# Altium schematic symbol library MCU_Microchip_ATmega.SchLib: 440 symbols (part 3 of 9)
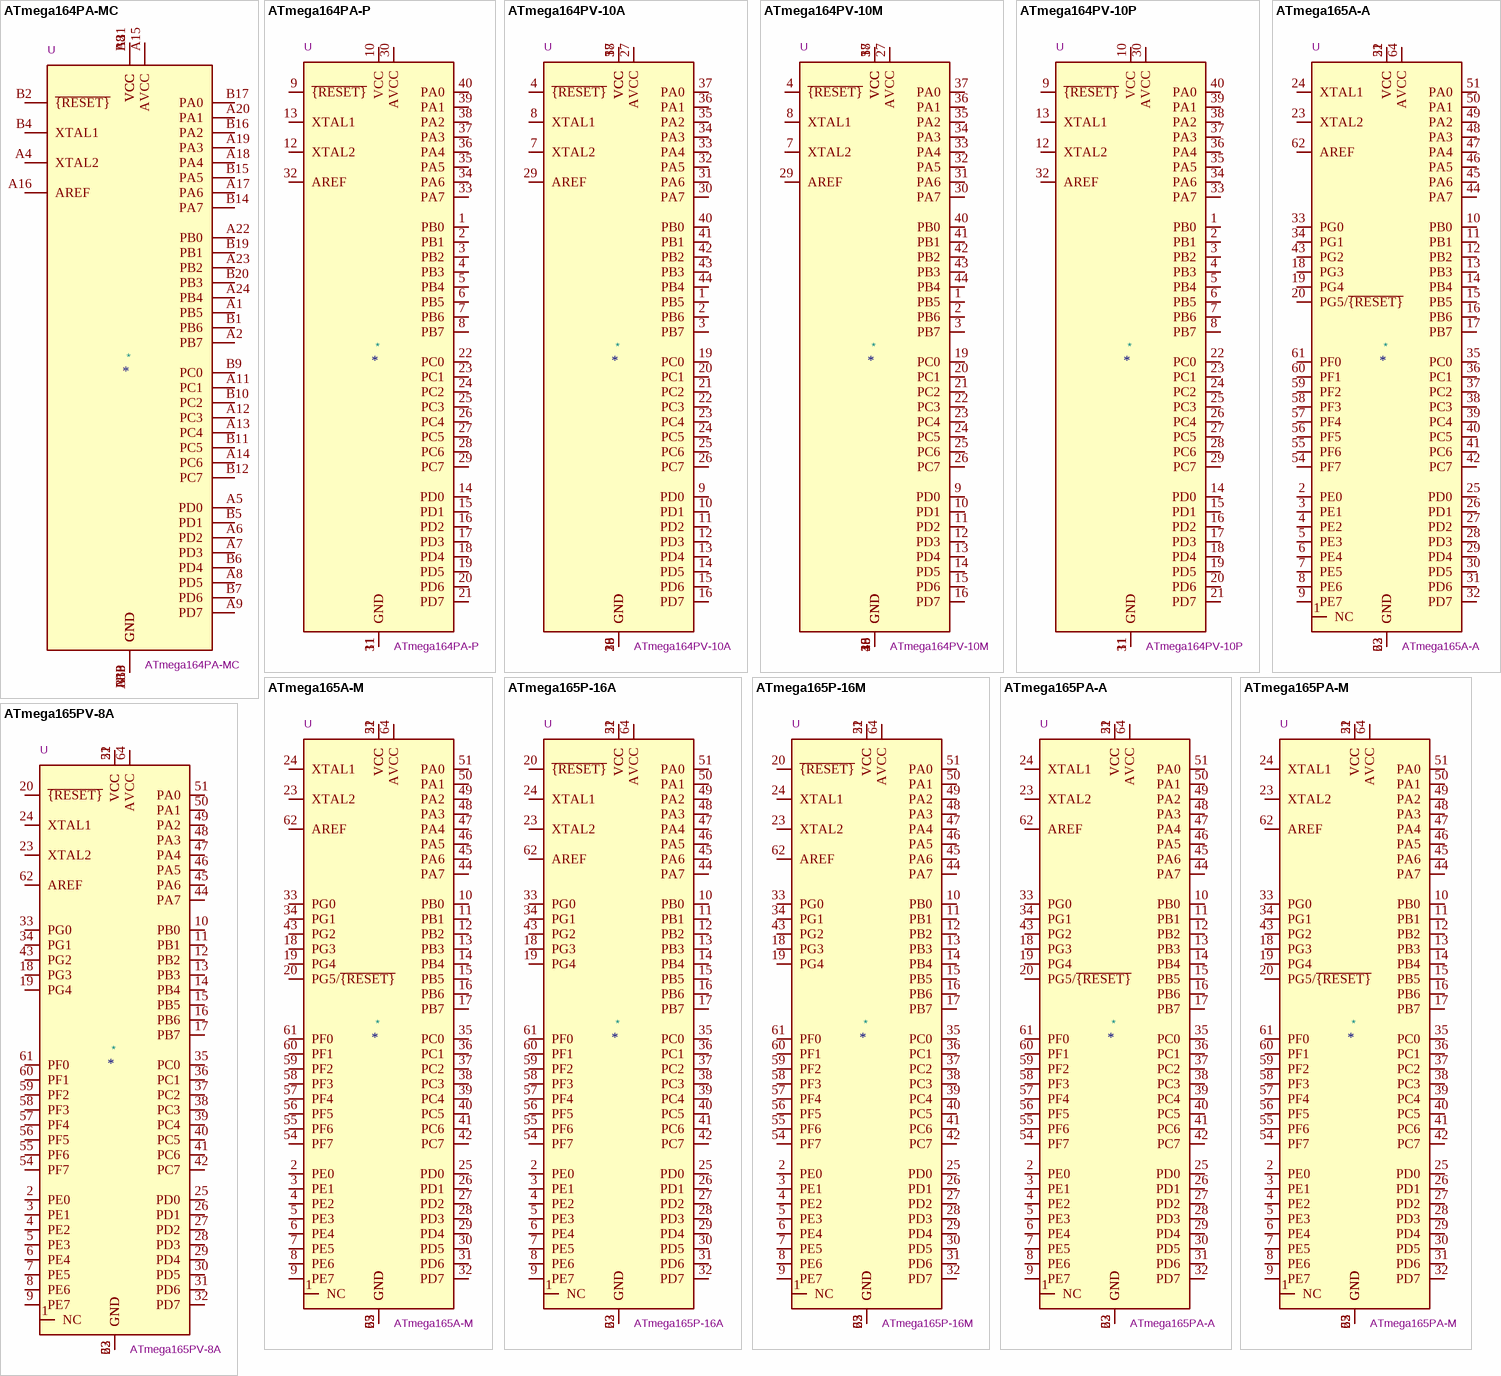
[diagram p42: symbols ATmega164PA-MC to ATmega165PV-8A]

## ATmega164PV-10A
designator *  value ATmega164PV-10A  Reference: U
10MHz, 16kB Flash, 1kB SRAM, 512B EEPROM, JTAG, TQFP-44; ki_keywords: AVR 8bit Microcontroller MegaAVR PicoPower; ki_fp_filters: TQFP*10x10mm*P0.8mm*; Footprint: Package_QFP:TQFP-44_10x10mm_P0.8mm; Datasheet: http://ww1.microchip.com/downloads/en/DeviceDoc/Atmel-42742-ATmega164P_Datasheet.pdf; Description_: 10MHz, 16kB Flash, 1kB SRAM, 512B EEPROM, JTAG, TQFP-44
pins: 1 PB5, 2 PB6, 3 PB7, 4 ~{{RESET}}, 5 VCC, 6 GND, 7 XTAL2, 8 XTAL1, 9 PD0, 10 PD1, 11 PD2, 12 PD3, 13 PD4, 14 PD5, 15 PD6, 16 PD7, 17 VCC, 18 GND, 19 PC0, 20 PC1, 21 PC2, 22 PC3, 23 PC4, 24 PC5, 25 PC6, 26 PC7, 27 AVCC, 28 GND, 29 AREF, 30 PA7, 31 PA6, 32 PA5, 33 PA4, 34 PA3, 35 PA2, 36 PA1, 37 PA0, 38 VCC, 39 GND, 40 PB0, 41 PB1, 42 PB2, 43 PB3, 44 PB4

## ATmega164PV-10M
designator *  value ATmega164PV-10M  Reference: U
10MHz, 16kB Flash, 1kB SRAM, 512B EEPROM, JTAG, QFN-44; ki_keywords: AVR 8bit Microcontroller MegaAVR PicoPower; ki_fp_filters: QFN*1EP*7x7mm*P0.5mm*; Footprint: Package_DFN_QFN:QFN-44-1EP_7x7mm_P0.5mm_EP5.2x5.2mm; Datasheet: http://ww1.microchip.com/downloads/en/DeviceDoc/Atmel-42742-ATmega164P_Datasheet.pdf; Description_: 10MHz, 16kB Flash, 1kB SRAM, 512B EEPROM, JTAG, QFN-44
pins: 1 PB5, 2 PB6, 3 PB7, 4 ~{{RESET}}, 5 VCC, 6 GND, 7 XTAL2, 8 XTAL1, 9 PD0, 10 PD1, 11 PD2, 12 PD3, 13 PD4, 14 PD5, 15 PD6, 16 PD7, 17 VCC, 18 GND, 19 PC0, 20 PC1, 21 PC2, 22 PC3, 23 PC4, 24 PC5, 25 PC6, 26 PC7, 27 AVCC, 28 GND, 29 AREF, 30 PA7, 31 PA6, 32 PA5, 33 PA4, 34 PA3, 35 PA2, 36 PA1, 37 PA0, 38 VCC, 39 GND, 40 PB0, 41 PB1, 42 PB2, 43 PB3, 44 PB4, 45 GND

## ATmega164PV-10P
designator *  value ATmega164PV-10P  Reference: U
10MHz, 16kB Flash, 1kB SRAM, 512B EEPROM, JTAG, DIP-40; ki_keywords: AVR 8bit Microcontroller MegaAVR PicoPower; ki_fp_filters: DIP*W15.24mm*; Footprint: Package_DIP:DIP-40_W15.24mm; Datasheet: http://ww1.microchip.com/downloads/en/DeviceDoc/Atmel-42742-ATmega164P_Datasheet.pdf; Description_: 10MHz, 16kB Flash, 1kB SRAM, 512B EEPROM, JTAG, DIP-40
pins: 1 PB0, 2 PB1, 3 PB2, 4 PB3, 5 PB4, 6 PB5, 7 PB6, 8 PB7, 9 ~{{RESET}}, 10 VCC, 11 GND, 12 XTAL2, 13 XTAL1, 14 PD0, 15 PD1, 16 PD2, 17 PD3, 18 PD4, 19 PD5, 20 PD6, 21 PD7, 22 PC0, 23 PC1, 24 PC2, 25 PC3, 26 PC4, 27 PC5, 28 PC6, 29 PC7, 30 AVCC, 31 GND, 32 AREF, 33 PA7, 34 PA6, 35 PA5, 36 PA4, 37 PA3, 38 PA2, 39 PA1, 40 PA0

## ATmega165A-A
designator *  value ATmega165A-A  Reference: U
16MHz, 16kB Flash, 1kB SRAM, 512B EEPROM, TQFP-64; ki_keywords: AVR 8bit Microcontroller MegaAVR PicoPower; ki_fp_filters: TQFP*14x14mm*P0.8mm*; Footprint: Package_QFP:TQFP-64_14x14mm_P0.8mm; Datasheet: http://ww1.microchip.com/downloads/en/DeviceDoc/atmel-8285-8-bit-avr-microcontroller-atmega165a_pa_325a_pa_3250a_pa_645a_p_6450a_p_datasheet.pdf; Description_: 16MHz, 16kB Flash, 1kB SRAM, 512B EEPROM, TQFP-64
pins: 1 NC, 2 PE0, 3 PE1, 4 PE2, 5 PE3, 6 PE4, 7 PE5, 8 PE6, 9 PE7, 10 PB0, 11 PB1, 12 PB2, 13 PB3, 14 PB4, 15 PB5, 16 PB6, 17 PB7, 18 PG3, 19 PG4, 20 PG5/~{{RESET}}, 21 VCC, 22 GND, 23 XTAL2, 24 XTAL1, 25 PD0, 26 PD1, 27 PD2, 28 PD3, 29 PD4, 30 PD5, 31 PD6, 32 PD7, 33 PG0, 34 PG1, 35 PC0, 36 PC1, 37 PC2, 38 PC3, 39 PC4, 40 PC5, 41 PC6, 42 PC7, 43 PG2, 44 PA7, 45 PA6, 46 PA5, 47 PA4, 48 PA3, 49 PA2, 50 PA1, 51 PA0, 52 VCC, 53 GND, 54 PF7, 55 PF6, 56 PF5, 57 PF4, 58 PF3, 59 PF2, 60 PF1, 61 PF0, 62 AREF, 63 GND, 64 AVCC

## ATmega165A-M
designator *  value ATmega165A-M  Reference: U
16MHz, 16kB Flash, 1kB SRAM, 512B EEPROM, QFN-64; ki_keywords: AVR 8bit Microcontroller MegaAVR PicoPower; ki_fp_filters: QFN*1EP*9x9mm*P0.5mm*; Footprint: Package_DFN_QFN:QFN-64-1EP_9x9mm_P0.5mm_EP5.4x5.4mm; Datasheet: http://ww1.microchip.com/downloads/en/DeviceDoc/atmel-8285-8-bit-avr-microcontroller-atmega165a_pa_325a_pa_3250a_pa_645a_p_6450a_p_datasheet.pdf; Description_: 16MHz, 16kB Flash, 1kB SRAM, 512B EEPROM, QFN-64
pins: 1 NC, 2 PE0, 3 PE1, 4 PE2, 5 PE3, 6 PE4, 7 PE5, 8 PE6, 9 PE7, 10 PB0, 11 PB1, 12 PB2, 13 PB3, 14 PB4, 15 PB5, 16 PB6, 17 PB7, 18 PG3, 19 PG4, 20 PG5/~{{RESET}}, 21 VCC, 22 GND, 23 XTAL2, 24 XTAL1, 25 PD0, 26 PD1, 27 PD2, 28 PD3, 29 PD4, 30 PD5, 31 PD6, 32 PD7, 33 PG0, 34 PG1, 35 PC0, 36 PC1, 37 PC2, 38 PC3, 39 PC4, 40 PC5, 41 PC6, 42 PC7, 43 PG2, 44 PA7, 45 PA6, 46 PA5, 47 PA4, 48 PA3, 49 PA2, 50 PA1, 51 PA0, 52 VCC, 53 GND, 54 PF7, 55 PF6, 56 PF5, 57 PF4, 58 PF3, 59 PF2, 60 PF1, 61 PF0, 62 AREF, 63 GND, 64 AVCC, 65 GND

## ATmega165P-16A
designator *  value ATmega165P-16A  Reference: U
16MHz, 16kB Flash, 1kB SRAM, 512B EEPROM, TQFP-64; ki_keywords: AVR 8bit Microcontroller MegaAVR PicoPower; ki_fp_filters: TQFP*14x14mm*P0.8mm*; Footprint: Package_QFP:TQFP-64_14x14mm_P0.8mm; Datasheet: http://ww1.microchip.com/downloads/en/DeviceDoc/doc8019.pdf; Description_: 16MHz, 16kB Flash, 1kB SRAM, 512B EEPROM, TQFP-64
pins: 1 NC, 2 PE0, 3 PE1, 4 PE2, 5 PE3, 6 PE4, 7 PE5, 8 PE6, 9 PE7, 10 PB0, 11 PB1, 12 PB2, 13 PB3, 14 PB4, 15 PB5, 16 PB6, 17 PB7, 18 PG3, 19 PG4, 20 ~{{RESET}}, 21 VCC, 22 GND, 23 XTAL2, 24 XTAL1, 25 PD0, 26 PD1, 27 PD2, 28 PD3, 29 PD4, 30 PD5, 31 PD6, 32 PD7, 33 PG0, 34 PG1, 35 PC0, 36 PC1, 37 PC2, 38 PC3, 39 PC4, 40 PC5, 41 PC6, 42 PC7, 43 PG2, 44 PA7, 45 PA6, 46 PA5, 47 PA4, 48 PA3, 49 PA2, 50 PA1, 51 PA0, 52 VCC, 53 GND, 54 PF7, 55 PF6, 56 PF5, 57 PF4, 58 PF3, 59 PF2, 60 PF1, 61 PF0, 62 AREF, 63 GND, 64 AVCC

## ATmega165P-16M
designator *  value ATmega165P-16M  Reference: U
16MHz, 16kB Flash, 1kB SRAM, 512B EEPROM, QFN-64; ki_keywords: AVR 8bit Microcontroller MegaAVR PicoPower; ki_fp_filters: QFN*1EP*9x9mm*P0.5mm*; Footprint: Package_DFN_QFN:QFN-64-1EP_9x9mm_P0.5mm_EP5.4x5.4mm; Datasheet: http://ww1.microchip.com/downloads/en/DeviceDoc/doc8019.pdf; Description_: 16MHz, 16kB Flash, 1kB SRAM, 512B EEPROM, QFN-64
pins: 1 NC, 2 PE0, 3 PE1, 4 PE2, 5 PE3, 6 PE4, 7 PE5, 8 PE6, 9 PE7, 10 PB0, 11 PB1, 12 PB2, 13 PB3, 14 PB4, 15 PB5, 16 PB6, 17 PB7, 18 PG3, 19 PG4, 20 ~{{RESET}}, 21 VCC, 22 GND, 23 XTAL2, 24 XTAL1, 25 PD0, 26 PD1, 27 PD2, 28 PD3, 29 PD4, 30 PD5, 31 PD6, 32 PD7, 33 PG0, 34 PG1, 35 PC0, 36 PC1, 37 PC2, 38 PC3, 39 PC4, 40 PC5, 41 PC6, 42 PC7, 43 PG2, 44 PA7, 45 PA6, 46 PA5, 47 PA4, 48 PA3, 49 PA2, 50 PA1, 51 PA0, 52 VCC, 53 GND, 54 PF7, 55 PF6, 56 PF5, 57 PF4, 58 PF3, 59 PF2, 60 PF1, 61 PF0, 62 AREF, 63 GND, 64 AVCC, 65 GND

## ATmega165PA-A
designator *  value ATmega165PA-A  Reference: U
16MHz, 16kB Flash, 1kB SRAM, 512B EEPROM, TQFP-64; ki_keywords: AVR 8bit Microcontroller MegaAVR PicoPower; ki_fp_filters: TQFP*14x14mm*P0.8mm*; Footprint: Package_QFP:TQFP-64_14x14mm_P0.8mm; Datasheet: http://ww1.microchip.com/downloads/en/DeviceDoc/atmel-8285-8-bit-avr-microcontroller-atmega165a_pa_325a_pa_3250a_pa_645a_p_6450a_p_datasheet.pdf; Description_: 16MHz, 16kB Flash, 1kB SRAM, 512B EEPROM, TQFP-64
pins: 1 NC, 2 PE0, 3 PE1, 4 PE2, 5 PE3, 6 PE4, 7 PE5, 8 PE6, 9 PE7, 10 PB0, 11 PB1, 12 PB2, 13 PB3, 14 PB4, 15 PB5, 16 PB6, 17 PB7, 18 PG3, 19 PG4, 20 PG5/~{{RESET}}, 21 VCC, 22 GND, 23 XTAL2, 24 XTAL1, 25 PD0, 26 PD1, 27 PD2, 28 PD3, 29 PD4, 30 PD5, 31 PD6, 32 PD7, 33 PG0, 34 PG1, 35 PC0, 36 PC1, 37 PC2, 38 PC3, 39 PC4, 40 PC5, 41 PC6, 42 PC7, 43 PG2, 44 PA7, 45 PA6, 46 PA5, 47 PA4, 48 PA3, 49 PA2, 50 PA1, 51 PA0, 52 VCC, 53 GND, 54 PF7, 55 PF6, 56 PF5, 57 PF4, 58 PF3, 59 PF2, 60 PF1, 61 PF0, 62 AREF, 63 GND, 64 AVCC

## ATmega165PA-M
designator *  value ATmega165PA-M  Reference: U
16MHz, 16kB Flash, 1kB SRAM, 512B EEPROM, QFN-64; ki_keywords: AVR 8bit Microcontroller MegaAVR PicoPower; ki_fp_filters: QFN*1EP*9x9mm*P0.5mm*; Footprint: Package_DFN_QFN:QFN-64-1EP_9x9mm_P0.5mm_EP5.4x5.4mm; Datasheet: http://ww1.microchip.com/downloads/en/DeviceDoc/atmel-8285-8-bit-avr-microcontroller-atmega165a_pa_325a_pa_3250a_pa_645a_p_6450a_p_datasheet.pdf; Description_: 16MHz, 16kB Flash, 1kB SRAM, 512B EEPROM, QFN-64
pins: 1 NC, 2 PE0, 3 PE1, 4 PE2, 5 PE3, 6 PE4, 7 PE5, 8 PE6, 9 PE7, 10 PB0, 11 PB1, 12 PB2, 13 PB3, 14 PB4, 15 PB5, 16 PB6, 17 PB7, 18 PG3, 19 PG4, 20 PG5/~{{RESET}}, 21 VCC, 22 GND, 23 XTAL2, 24 XTAL1, 25 PD0, 26 PD1, 27 PD2, 28 PD3, 29 PD4, 30 PD5, 31 PD6, 32 PD7, 33 PG0, 34 PG1, 35 PC0, 36 PC1, 37 PC2, 38 PC3, 39 PC4, 40 PC5, 41 PC6, 42 PC7, 43 PG2, 44 PA7, 45 PA6, 46 PA5, 47 PA4, 48 PA3, 49 PA2, 50 PA1, 51 PA0, 52 VCC, 53 GND, 54 PF7, 55 PF6, 56 PF5, 57 PF4, 58 PF3, 59 PF2, 60 PF1, 61 PF0, 62 AREF, 63 GND, 64 AVCC, 65 GND

## ATmega165PV-8A
designator *  value ATmega165PV-8A  Reference: U
8MHz, 16kB Flash, 1kB SRAM, 512B EEPROM, TQFP-64; ki_keywords: AVR 8bit Microcontroller MegaAVR PicoPower; ki_fp_filters: TQFP*14x14mm*P0.8mm*; Footprint: Package_QFP:TQFP-64_14x14mm_P0.8mm; Datasheet: http://ww1.microchip.com/downloads/en/DeviceDoc/doc8019.pdf; Description_: 8MHz, 16kB Flash, 1kB SRAM, 512B EEPROM, TQFP-64
pins: 1 NC, 2 PE0, 3 PE1, 4 PE2, 5 PE3, 6 PE4, 7 PE5, 8 PE6, 9 PE7, 10 PB0, 11 PB1, 12 PB2, 13 PB3, 14 PB4, 15 PB5, 16 PB6, 17 PB7, 18 PG3, 19 PG4, 20 ~{{RESET}}, 21 VCC, 22 GND, 23 XTAL2, 24 XTAL1, 25 PD0, 26 PD1, 27 PD2, 28 PD3, 29 PD4, 30 PD5, 31 PD6, 32 PD7, 33 PG0, 34 PG1, 35 PC0, 36 PC1, 37 PC2, 38 PC3, 39 PC4, 40 PC5, 41 PC6, 42 PC7, 43 PG2, 44 PA7, 45 PA6, 46 PA5, 47 PA4, 48 PA3, 49 PA2, 50 PA1, 51 PA0, 52 VCC, 53 GND, 54 PF7, 55 PF6, 56 PF5, 57 PF4, 58 PF3, 59 PF2, 60 PF1, 61 PF0, 62 AREF, 63 GND, 64 AVCC

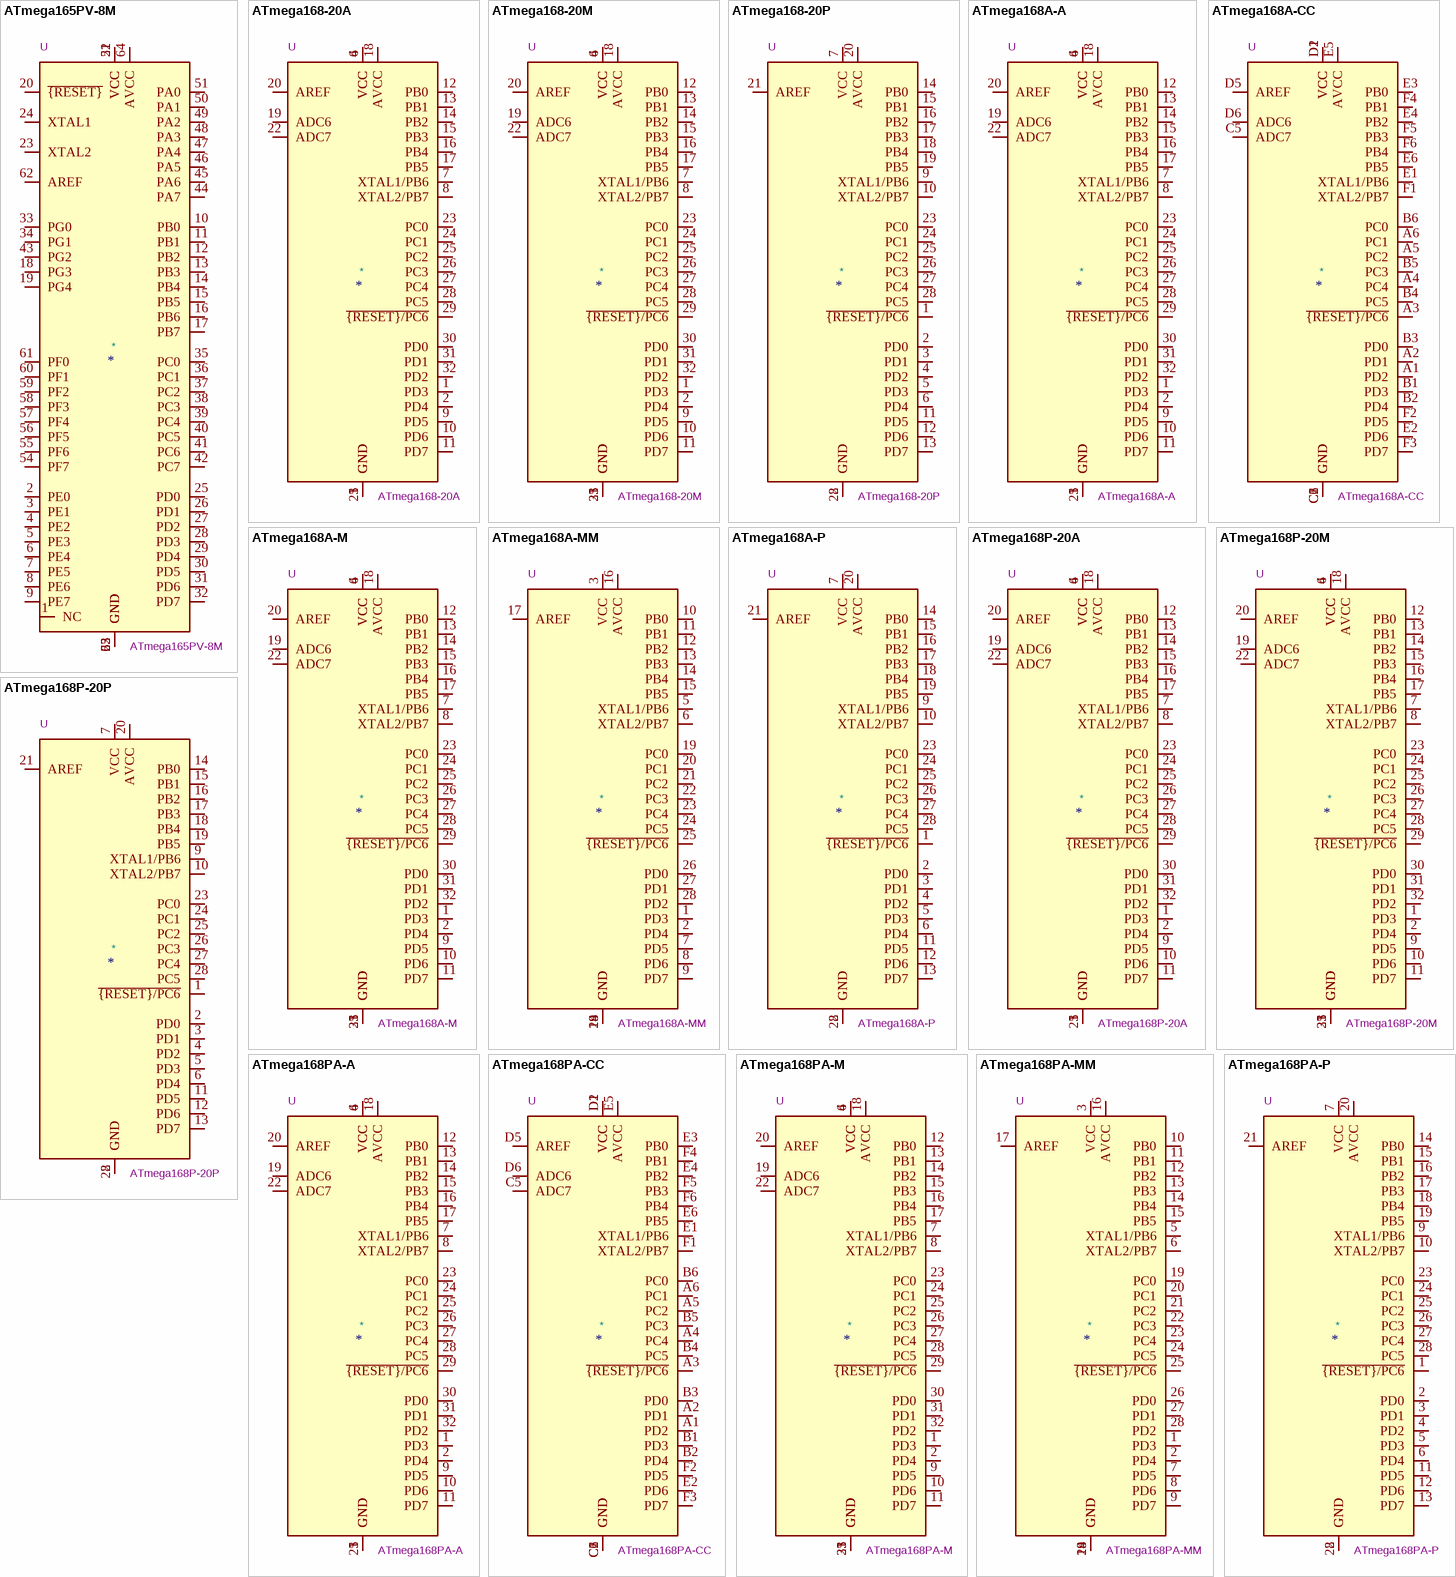
[diagram p11: symbols ATmega165PV-8M to ATmega168PA-P]

## ATmega165PV-8M
designator *  value ATmega165PV-8M  Reference: U
8MHz, 16kB Flash, 1kB SRAM, 512B EEPROM, QFN-64; ki_keywords: AVR 8bit Microcontroller MegaAVR PicoPower; ki_fp_filters: QFN*1EP*9x9mm*P0.5mm*; Footprint: Package_DFN_QFN:QFN-64-1EP_9x9mm_P0.5mm_EP5.4x5.4mm; Datasheet: http://ww1.microchip.com/downloads/en/DeviceDoc/doc8019.pdf; Description_: 8MHz, 16kB Flash, 1kB SRAM, 512B EEPROM, QFN-64
pins: 1 NC, 2 PE0, 3 PE1, 4 PE2, 5 PE3, 6 PE4, 7 PE5, 8 PE6, 9 PE7, 10 PB0, 11 PB1, 12 PB2, 13 PB3, 14 PB4, 15 PB5, 16 PB6, 17 PB7, 18 PG3, 19 PG4, 20 ~{{RESET}}, 21 VCC, 22 GND, 23 XTAL2, 24 XTAL1, 25 PD0, 26 PD1, 27 PD2, 28 PD3, 29 PD4, 30 PD5, 31 PD6, 32 PD7, 33 PG0, 34 PG1, 35 PC0, 36 PC1, 37 PC2, 38 PC3, 39 PC4, 40 PC5, 41 PC6, 42 PC7, 43 PG2, 44 PA7, 45 PA6, 46 PA5, 47 PA4, 48 PA3, 49 PA2, 50 PA1, 51 PA0, 52 VCC, 53 GND, 54 PF7, 55 PF6, 56 PF5, 57 PF4, 58 PF3, 59 PF2, 60 PF1, 61 PF0, 62 AREF, 63 GND, 64 AVCC, 65 GND

## ATmega168-20A
designator *  value ATmega168-20A  Reference: U
20MHz, 16kB Flash, 1kB SRAM, 512B EEPROM, TQFP-32; ki_keywords: AVR 8bit Microcontroller MegaAVR; ki_fp_filters: TQFP*7x7mm*P0.8mm*; Footprint: Package_QFP:TQFP-32_7x7mm_P0.8mm; Datasheet: http://ww1.microchip.com/downloads/en/DeviceDoc/Atmel-2545-8-bit-AVR-Microcontroller-ATmega48-88-168_Datasheet.pdf; Description_: 20MHz, 16kB Flash, 1kB SRAM, 512B EEPROM, TQFP-32
pins: 1 PD3, 2 PD4, 3 GND, 4 VCC, 5 GND, 6 VCC, 7 XTAL1/PB6, 8 XTAL2/PB7, 9 PD5, 10 PD6, 11 PD7, 12 PB0, 13 PB1, 14 PB2, 15 PB3, 16 PB4, 17 PB5, 18 AVCC, 19 ADC6, 20 AREF, 21 GND, 22 ADC7, 23 PC0, 24 PC1, 25 PC2, 26 PC3, 27 PC4, 28 PC5, 29 ~{{RESET}/PC6}, 30 PD0, 31 PD1, 32 PD2

## ATmega168-20M
designator *  value ATmega168-20M  Reference: U
20MHz, 16kB Flash, 1kB SRAM, 512B EEPROM, QFN-32; ki_keywords: AVR 8bit Microcontroller MegaAVR; ki_fp_filters: QFN*1EP*5x5mm*P0.5mm*; Footprint: Package_DFN_QFN:QFN-32-1EP_5x5mm_P0.5mm_EP3.1x3.1mm; Datasheet: http://ww1.microchip.com/downloads/en/DeviceDoc/Atmel-2545-8-bit-AVR-Microcontroller-ATmega48-88-168_Datasheet.pdf; Description_: 20MHz, 16kB Flash, 1kB SRAM, 512B EEPROM, QFN-32
pins: 1 PD3, 2 PD4, 3 GND, 4 VCC, 5 GND, 6 VCC, 7 XTAL1/PB6, 8 XTAL2/PB7, 9 PD5, 10 PD6, 11 PD7, 12 PB0, 13 PB1, 14 PB2, 15 PB3, 16 PB4, 17 PB5, 18 AVCC, 19 ADC6, 20 AREF, 21 GND, 22 ADC7, 23 PC0, 24 PC1, 25 PC2, 26 PC3, 27 PC4, 28 PC5, 29 ~{{RESET}/PC6}, 30 PD0, 31 PD1, 32 PD2, 33 GND

## ATmega168-20P
designator *  value ATmega168-20P  Reference: U
20MHz, 16kB Flash, 1kB SRAM, 512B EEPROM, DIP-28; ki_keywords: AVR 8bit Microcontroller MegaAVR; ki_fp_filters: DIP*W7.62mm*; Footprint: Package_DIP:DIP-28_W7.62mm; Datasheet: http://ww1.microchip.com/downloads/en/DeviceDoc/Atmel-2545-8-bit-AVR-Microcontroller-ATmega48-88-168_Datasheet.pdf; Description_: 20MHz, 16kB Flash, 1kB SRAM, 512B EEPROM, DIP-28
pins: 1 ~{{RESET}/PC6}, 2 PD0, 3 PD1, 4 PD2, 5 PD3, 6 PD4, 7 VCC, 8 GND, 9 XTAL1/PB6, 10 XTAL2/PB7, 11 PD5, 12 PD6, 13 PD7, 14 PB0, 15 PB1, 16 PB2, 17 PB3, 18 PB4, 19 PB5, 20 AVCC, 21 AREF, 22 GND, 23 PC0, 24 PC1, 25 PC2, 26 PC3, 27 PC4, 28 PC5

## ATmega168A-A
designator *  value ATmega168A-A  Reference: U
20MHz, 16kB Flash, 1kB SRAM, 512B EEPROM, TQFP-32; ki_keywords: AVR 8bit Microcontroller MegaAVR; ki_fp_filters: TQFP*7x7mm*P0.8mm*; Footprint: Package_QFP:TQFP-32_7x7mm_P0.8mm; Datasheet: http://ww1.microchip.com/downloads/en/DeviceDoc/ATmega48A_88A_168A-Data-Sheet-40002007A.pdf; Description_: 20MHz, 16kB Flash, 1kB SRAM, 512B EEPROM, TQFP-32
pins: 1 PD3, 2 PD4, 3 GND, 4 VCC, 5 GND, 6 VCC, 7 XTAL1/PB6, 8 XTAL2/PB7, 9 PD5, 10 PD6, 11 PD7, 12 PB0, 13 PB1, 14 PB2, 15 PB3, 16 PB4, 17 PB5, 18 AVCC, 19 ADC6, 20 AREF, 21 GND, 22 ADC7, 23 PC0, 24 PC1, 25 PC2, 26 PC3, 27 PC4, 28 PC5, 29 ~{{RESET}/PC6}, 30 PD0, 31 PD1, 32 PD2

## ATmega168A-CC
designator *  value ATmega168A-CC  Reference: U
20MHz, 16kB Flash, 1kB SRAM, 512B EEPROM, UFBGA-32; ki_keywords: AVR 8bit Microcontroller MegaAVR; ki_fp_filters: UFBGA*4.0x4.0mm*Layout6x6*P0.5mm*; Footprint: Package_BGA:UFBGA-32_4.0x4.0mm_Layout6x6_P0.5mm; Datasheet: http://ww1.microchip.com/downloads/en/DeviceDoc/ATmega48A_88A_168A-Data-Sheet-40002007A.pdf; Description_: 20MHz, 16kB Flash, 1kB SRAM, 512B EEPROM, UFBGA-32
pins: A1 PD2, A2 PD1, A3 ~{{RESET}/PC6}, A4 PC4, A5 PC2, A6 PC1, B1 PD3, B2 PD4, B3 PD0, B4 PC5, B5 PC3, B6 PC0, C1 GND, C2 GND, C5 ADC7, C6 GND, D1 VCC, D2 VCC, D5 AREF, D6 ADC6, E1 XTAL1/PB6, E2 PD6, E3 PB0, E4 PB2, E5 AVCC, E6 PB5, F1 XTAL2/PB7, F2 PD5, F3 PD7, F4 PB1, F5 PB3, F6 PB4

## ATmega168A-M
designator *  value ATmega168A-M  Reference: U
20MHz, 16kB Flash, 1kB SRAM, 512B EEPROM, QFN-32; ki_keywords: AVR 8bit Microcontroller MegaAVR; ki_fp_filters: QFN*1EP*5x5mm*P0.5mm*; Footprint: Package_DFN_QFN:QFN-32-1EP_5x5mm_P0.5mm_EP3.1x3.1mm; Datasheet: http://ww1.microchip.com/downloads/en/DeviceDoc/ATmega48A_88A_168A-Data-Sheet-40002007A.pdf; Description_: 20MHz, 16kB Flash, 1kB SRAM, 512B EEPROM, QFN-32
pins: 1 PD3, 2 PD4, 3 GND, 4 VCC, 5 GND, 6 VCC, 7 XTAL1/PB6, 8 XTAL2/PB7, 9 PD5, 10 PD6, 11 PD7, 12 PB0, 13 PB1, 14 PB2, 15 PB3, 16 PB4, 17 PB5, 18 AVCC, 19 ADC6, 20 AREF, 21 GND, 22 ADC7, 23 PC0, 24 PC1, 25 PC2, 26 PC3, 27 PC4, 28 PC5, 29 ~{{RESET}/PC6}, 30 PD0, 31 PD1, 32 PD2, 33 GND

## ATmega168A-MM
designator *  value ATmega168A-MM  Reference: U
20MHz, 16kB Flash, 1kB SRAM, 512B EEPROM, QFN-28; ki_keywords: AVR 8bit Microcontroller MegaAVR; ki_fp_filters: QFN*1EP*4x4mm*P0.45mm*; Footprint: Package_DFN_QFN:QFN-28-1EP_4x4mm_P0.45mm_EP2.4x2.4mm; Datasheet: http://ww1.microchip.com/downloads/en/DeviceDoc/ATmega48A_88A_168A-Data-Sheet-40002007A.pdf; Description_: 20MHz, 16kB Flash, 1kB SRAM, 512B EEPROM, QFN-28
pins: 1 PD3, 2 PD4, 3 VCC, 4 GND, 5 XTAL1/PB6, 6 XTAL2/PB7, 7 PD5, 8 PD6, 9 PD7, 10 PB0, 11 PB1, 12 PB2, 13 PB3, 14 PB4, 15 PB5, 16 AVCC, 17 AREF, 18 GND, 19 PC0, 20 PC1, 21 PC2, 22 PC3, 23 PC4, 24 PC5, 25 ~{{RESET}/PC6}, 26 PD0, 27 PD1, 28 PD2, 29 GND

## ATmega168A-P
designator *  value ATmega168A-P  Reference: U
20MHz, 16kB Flash, 1kB SRAM, 512B EEPROM, DIP-28; ki_keywords: AVR 8bit Microcontroller MegaAVR; ki_fp_filters: DIP*W7.62mm*; Footprint: Package_DIP:DIP-28_W7.62mm; Datasheet: http://ww1.microchip.com/downloads/en/DeviceDoc/ATmega48A_88A_168A-Data-Sheet-40002007A.pdf; Description_: 20MHz, 16kB Flash, 1kB SRAM, 512B EEPROM, DIP-28
pins: 1 ~{{RESET}/PC6}, 2 PD0, 3 PD1, 4 PD2, 5 PD3, 6 PD4, 7 VCC, 8 GND, 9 XTAL1/PB6, 10 XTAL2/PB7, 11 PD5, 12 PD6, 13 PD7, 14 PB0, 15 PB1, 16 PB2, 17 PB3, 18 PB4, 19 PB5, 20 AVCC, 21 AREF, 22 GND, 23 PC0, 24 PC1, 25 PC2, 26 PC3, 27 PC4, 28 PC5

## ATmega168P-20A
designator *  value ATmega168P-20A  Reference: U
20MHz, 16kB Flash, 1kB SRAM, 512B EEPROM, TQFP-32; ki_keywords: AVR 8bit Microcontroller MegaAVR; ki_fp_filters: TQFP*7x7mm*P0.8mm*; Footprint: Package_QFP:TQFP-32_7x7mm_P0.8mm; Datasheet: http://ww1.microchip.com/downloads/en/DeviceDoc/Atmel-8025-8-bit-AVR-Microcontroller-ATmega48P-88P-168P_Datasheet.pdf; Description_: 20MHz, 16kB Flash, 1kB SRAM, 512B EEPROM, TQFP-32
pins: 1 PD3, 2 PD4, 3 GND, 4 VCC, 5 GND, 6 VCC, 7 XTAL1/PB6, 8 XTAL2/PB7, 9 PD5, 10 PD6, 11 PD7, 12 PB0, 13 PB1, 14 PB2, 15 PB3, 16 PB4, 17 PB5, 18 AVCC, 19 ADC6, 20 AREF, 21 GND, 22 ADC7, 23 PC0, 24 PC1, 25 PC2, 26 PC3, 27 PC4, 28 PC5, 29 ~{{RESET}/PC6}, 30 PD0, 31 PD1, 32 PD2

## ATmega168P-20M
designator *  value ATmega168P-20M  Reference: U
20MHz, 16kB Flash, 1kB SRAM, 512B EEPROM, QFN-32; ki_keywords: AVR 8bit Microcontroller MegaAVR; ki_fp_filters: QFN*1EP*5x5mm*P0.5mm*; Footprint: Package_DFN_QFN:QFN-32-1EP_5x5mm_P0.5mm_EP3.1x3.1mm; Datasheet: http://ww1.microchip.com/downloads/en/DeviceDoc/Atmel-8025-8-bit-AVR-Microcontroller-ATmega48P-88P-168P_Datasheet.pdf; Description_: 20MHz, 16kB Flash, 1kB SRAM, 512B EEPROM, QFN-32
pins: 1 PD3, 2 PD4, 3 GND, 4 VCC, 5 GND, 6 VCC, 7 XTAL1/PB6, 8 XTAL2/PB7, 9 PD5, 10 PD6, 11 PD7, 12 PB0, 13 PB1, 14 PB2, 15 PB3, 16 PB4, 17 PB5, 18 AVCC, 19 ADC6, 20 AREF, 21 GND, 22 ADC7, 23 PC0, 24 PC1, 25 PC2, 26 PC3, 27 PC4, 28 PC5, 29 ~{{RESET}/PC6}, 30 PD0, 31 PD1, 32 PD2, 33 GND

## ATmega168P-20P
designator *  value ATmega168P-20P  Reference: U
20MHz, 16kB Flash, 1kB SRAM, 512B EEPROM, DIP-28; ki_keywords: AVR 8bit Microcontroller MegaAVR; ki_fp_filters: DIP*W7.62mm*; Footprint: Package_DIP:DIP-28_W7.62mm; Datasheet: http://ww1.microchip.com/downloads/en/DeviceDoc/Atmel-8025-8-bit-AVR-Microcontroller-ATmega48P-88P-168P_Datasheet.pdf; Description_: 20MHz, 16kB Flash, 1kB SRAM, 512B EEPROM, DIP-28
pins: 1 ~{{RESET}/PC6}, 2 PD0, 3 PD1, 4 PD2, 5 PD3, 6 PD4, 7 VCC, 8 GND, 9 XTAL1/PB6, 10 XTAL2/PB7, 11 PD5, 12 PD6, 13 PD7, 14 PB0, 15 PB1, 16 PB2, 17 PB3, 18 PB4, 19 PB5, 20 AVCC, 21 AREF, 22 GND, 23 PC0, 24 PC1, 25 PC2, 26 PC3, 27 PC4, 28 PC5

## ATmega168PA-A
designator *  value ATmega168PA-A  Reference: U
20MHz, 16kB Flash, 1kB SRAM, 512B EEPROM, TQFP-32; ki_keywords: AVR 8bit Microcontroller MegaAVR PicoPower; ki_fp_filters: TQFP*7x7mm*P0.8mm*; Footprint: Package_QFP:TQFP-32_7x7mm_P0.8mm; Datasheet: http://ww1.microchip.com/downloads/en/DeviceDoc/ATmega48PA_88PA_168PA-Data-Sheet-40002011A.pdf; Description_: 20MHz, 16kB Flash, 1kB SRAM, 512B EEPROM, TQFP-32
pins: 1 PD3, 2 PD4, 3 GND, 4 VCC, 5 GND, 6 VCC, 7 XTAL1/PB6, 8 XTAL2/PB7, 9 PD5, 10 PD6, 11 PD7, 12 PB0, 13 PB1, 14 PB2, 15 PB3, 16 PB4, 17 PB5, 18 AVCC, 19 ADC6, 20 AREF, 21 GND, 22 ADC7, 23 PC0, 24 PC1, 25 PC2, 26 PC3, 27 PC4, 28 PC5, 29 ~{{RESET}/PC6}, 30 PD0, 31 PD1, 32 PD2

## ATmega168PA-CC
designator *  value ATmega168PA-CC  Reference: U
20MHz, 16kB Flash, 1kB SRAM, 512B EEPROM, UFBGA-32; ki_keywords: AVR 8bit Microcontroller MegaAVR PicoPower; ki_fp_filters: UFBGA*4.0x4.0mm*Layout6x6*P0.5mm*; Footprint: Package_BGA:UFBGA-32_4.0x4.0mm_Layout6x6_P0.5mm; Datasheet: http://ww1.microchip.com/downloads/en/DeviceDoc/ATmega48PA_88PA_168PA-Data-Sheet-40002011A.pdf; Description_: 20MHz, 16kB Flash, 1kB SRAM, 512B EEPROM, UFBGA-32
pins: A1 PD2, A2 PD1, A3 ~{{RESET}/PC6}, A4 PC4, A5 PC2, A6 PC1, B1 PD3, B2 PD4, B3 PD0, B4 PC5, B5 PC3, B6 PC0, C1 GND, C2 GND, C5 ADC7, C6 GND, D1 VCC, D2 VCC, D5 AREF, D6 ADC6, E1 XTAL1/PB6, E2 PD6, E3 PB0, E4 PB2, E5 AVCC, E6 PB5, F1 XTAL2/PB7, F2 PD5, F3 PD7, F4 PB1, F5 PB3, F6 PB4

## ATmega168PA-M
designator *  value ATmega168PA-M  Reference: U
20MHz, 16kB Flash, 1kB SRAM, 512B EEPROM, QFN-32; ki_keywords: AVR 8bit Microcontroller MegaAVR PicoPower; ki_fp_filters: QFN*1EP*5x5mm*P0.5mm*; Footprint: Package_DFN_QFN:QFN-32-1EP_5x5mm_P0.5mm_EP3.1x3.1mm; Datasheet: http://ww1.microchip.com/downloads/en/DeviceDoc/ATmega48PA_88PA_168PA-Data-Sheet-40002011A.pdf; Description_: 20MHz, 16kB Flash, 1kB SRAM, 512B EEPROM, QFN-32
pins: 1 PD3, 2 PD4, 3 GND, 4 VCC, 5 GND, 6 VCC, 7 XTAL1/PB6, 8 XTAL2/PB7, 9 PD5, 10 PD6, 11 PD7, 12 PB0, 13 PB1, 14 PB2, 15 PB3, 16 PB4, 17 PB5, 18 AVCC, 19 ADC6, 20 AREF, 21 GND, 22 ADC7, 23 PC0, 24 PC1, 25 PC2, 26 PC3, 27 PC4, 28 PC5, 29 ~{{RESET}/PC6}, 30 PD0, 31 PD1, 32 PD2, 33 GND

## ATmega168PA-MM
designator *  value ATmega168PA-MM  Reference: U
20MHz, 16kB Flash, 1kB SRAM, 512B EEPROM, QFN-28; ki_keywords: AVR 8bit Microcontroller MegaAVR PicoPower; ki_fp_filters: QFN*1EP*4x4mm*P0.45mm*; Footprint: Package_DFN_QFN:QFN-28-1EP_4x4mm_P0.45mm_EP2.4x2.4mm; Datasheet: http://ww1.microchip.com/downloads/en/DeviceDoc/ATmega48PA_88PA_168PA-Data-Sheet-40002011A.pdf; Description_: 20MHz, 16kB Flash, 1kB SRAM, 512B EEPROM, QFN-28
pins: 1 PD3, 2 PD4, 3 VCC, 4 GND, 5 XTAL1/PB6, 6 XTAL2/PB7, 7 PD5, 8 PD6, 9 PD7, 10 PB0, 11 PB1, 12 PB2, 13 PB3, 14 PB4, 15 PB5, 16 AVCC, 17 AREF, 18 GND, 19 PC0, 20 PC1, 21 PC2, 22 PC3, 23 PC4, 24 PC5, 25 ~{{RESET}/PC6}, 26 PD0, 27 PD1, 28 PD2, 29 GND

## ATmega168PA-P
designator *  value ATmega168PA-P  Reference: U
20MHz, 16kB Flash, 1kB SRAM, 512B EEPROM, DIP-28; ki_keywords: AVR 8bit Microcontroller MegaAVR PicoPower; ki_fp_filters: DIP*W7.62mm*; Footprint: Package_DIP:DIP-28_W7.62mm; Datasheet: http://ww1.microchip.com/downloads/en/DeviceDoc/ATmega48PA_88PA_168PA-Data-Sheet-40002011A.pdf; Description_: 20MHz, 16kB Flash, 1kB SRAM, 512B EEPROM, DIP-28
pins: 1 ~{{RESET}/PC6}, 2 PD0, 3 PD1, 4 PD2, 5 PD3, 6 PD4, 7 VCC, 8 GND, 9 XTAL1/PB6, 10 XTAL2/PB7, 11 PD5, 12 PD6, 13 PD7, 14 PB0, 15 PB1, 16 PB2, 17 PB3, 18 PB4, 19 PB5, 20 AVCC, 21 AREF, 22 GND, 23 PC0, 24 PC1, 25 PC2, 26 PC3, 27 PC4, 28 PC5

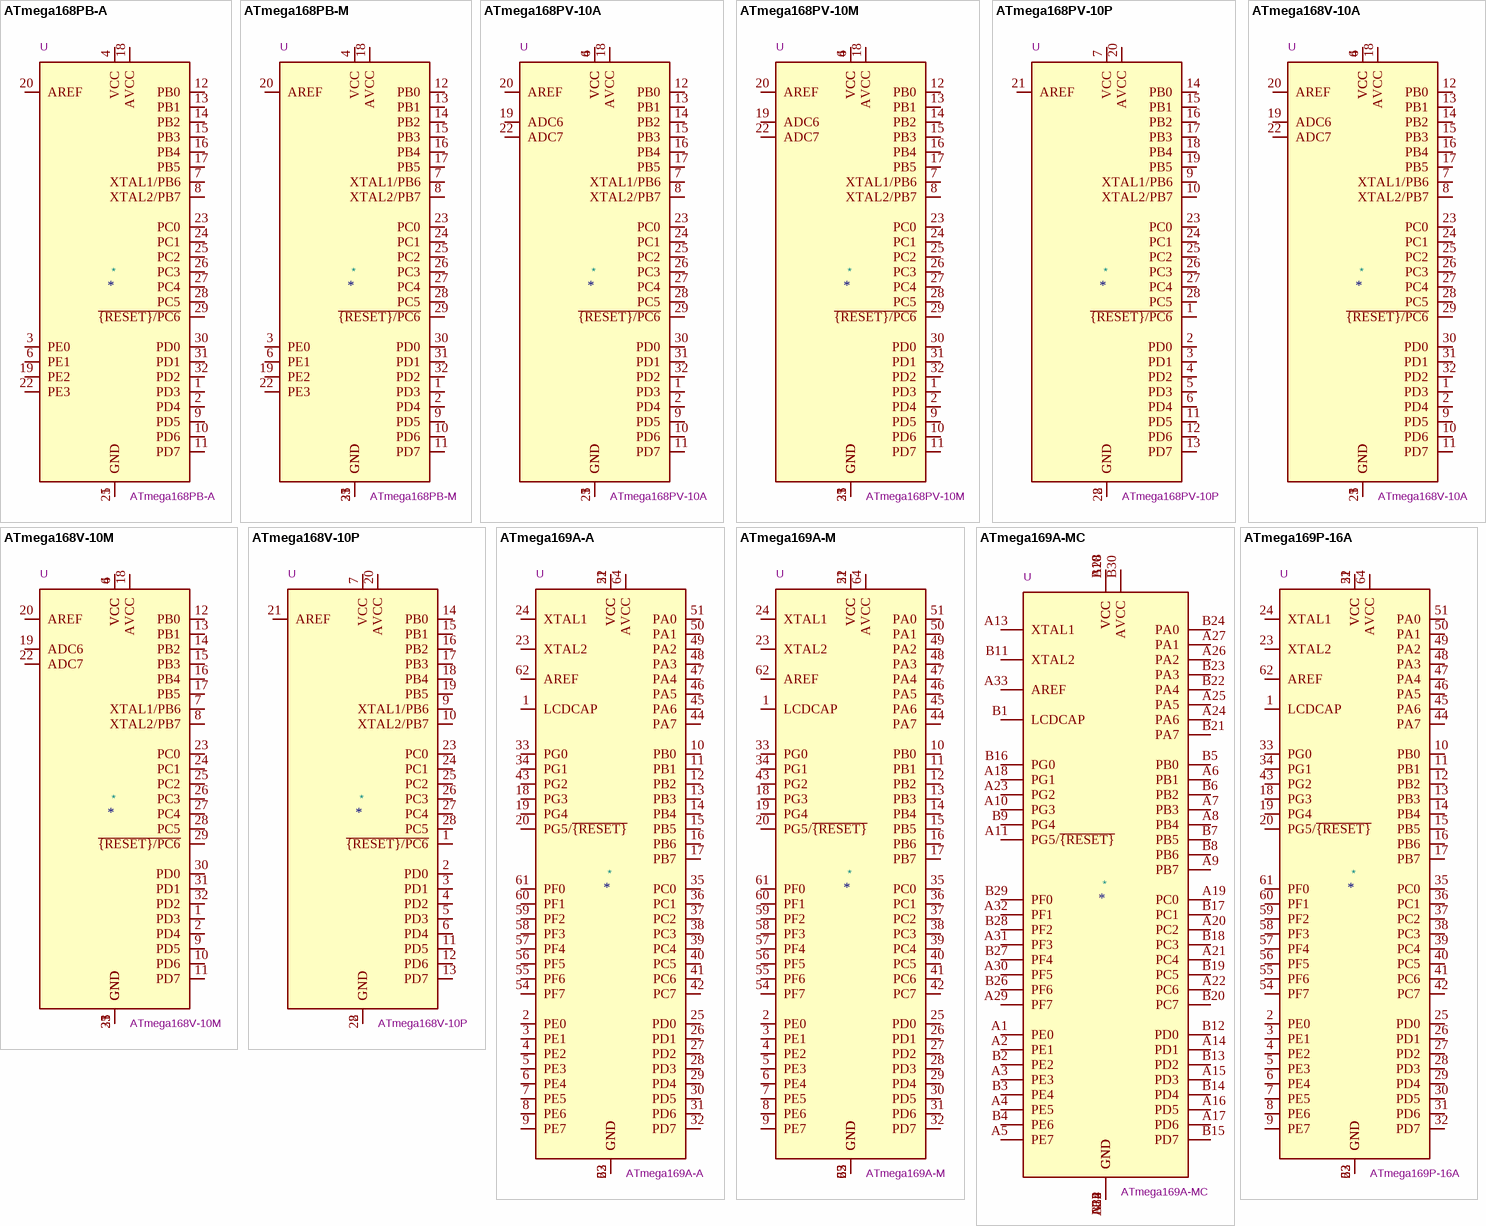
[diagram p12: symbols ATmega168PB-A to ATmega169P-16A]

## ATmega168PB-A
designator *  value ATmega168PB-A  Reference: U
20MHz, 16kB Flash, 1kB SRAM, 512B EEPROM, TQFP-32; ki_keywords: AVR 8bit Microcontroller MegaAVR; ki_fp_filters: TQFP*7x7mm*P0.8mm*; Footprint: Package_QFP:TQFP-32_7x7mm_P0.8mm; Datasheet: http://ww1.microchip.com/downloads/en/DeviceDoc/40001909A.pdf; Description_: 20MHz, 16kB Flash, 1kB SRAM, 512B EEPROM, TQFP-32
pins: 1 PD3, 2 PD4, 3 PE0, 4 VCC, 5 GND, 6 PE1, 7 XTAL1/PB6, 8 XTAL2/PB7, 9 PD5, 10 PD6, 11 PD7, 12 PB0, 13 PB1, 14 PB2, 15 PB3, 16 PB4, 17 PB5, 18 AVCC, 19 PE2, 20 AREF, 21 GND, 22 PE3, 23 PC0, 24 PC1, 25 PC2, 26 PC3, 27 PC4, 28 PC5, 29 ~{{RESET}/PC6}, 30 PD0, 31 PD1, 32 PD2

## ATmega168PB-M
designator *  value ATmega168PB-M  Reference: U
20MHz, 16kB Flash, 1kB SRAM, 512B EEPROM, QFN-32; ki_keywords: AVR 8bit Microcontroller MegaAVR; ki_fp_filters: QFN*1EP*5x5mm*P0.5mm*; Footprint: Package_DFN_QFN:QFN-32-1EP_5x5mm_P0.5mm_EP3.1x3.1mm; Datasheet: http://ww1.microchip.com/downloads/en/DeviceDoc/40001909A.pdf; Description_: 20MHz, 16kB Flash, 1kB SRAM, 512B EEPROM, QFN-32
pins: 1 PD3, 2 PD4, 3 PE0, 4 VCC, 5 GND, 6 PE1, 7 XTAL1/PB6, 8 XTAL2/PB7, 9 PD5, 10 PD6, 11 PD7, 12 PB0, 13 PB1, 14 PB2, 15 PB3, 16 PB4, 17 PB5, 18 AVCC, 19 PE2, 20 AREF, 21 GND, 22 PE3, 23 PC0, 24 PC1, 25 PC2, 26 PC3, 27 PC4, 28 PC5, 29 ~{{RESET}/PC6}, 30 PD0, 31 PD1, 32 PD2, 33 GND

## ATmega168PV-10A
designator *  value ATmega168PV-10A  Reference: U
10MHz, 16kB Flash, 1kB SRAM, 512B EEPROM, TQFP-32; ki_keywords: AVR 8bit Microcontroller MegaAVR; ki_fp_filters: TQFP*7x7mm*P0.8mm*; Footprint: Package_QFP:TQFP-32_7x7mm_P0.8mm; Datasheet: http://ww1.microchip.com/downloads/en/DeviceDoc/Atmel-8025-8-bit-AVR-Microcontroller-ATmega48P-88P-168P_Datasheet.pdf; Description_: 10MHz, 16kB Flash, 1kB SRAM, 512B EEPROM, TQFP-32
pins: 1 PD3, 2 PD4, 3 GND, 4 VCC, 5 GND, 6 VCC, 7 XTAL1/PB6, 8 XTAL2/PB7, 9 PD5, 10 PD6, 11 PD7, 12 PB0, 13 PB1, 14 PB2, 15 PB3, 16 PB4, 17 PB5, 18 AVCC, 19 ADC6, 20 AREF, 21 GND, 22 ADC7, 23 PC0, 24 PC1, 25 PC2, 26 PC3, 27 PC4, 28 PC5, 29 ~{{RESET}/PC6}, 30 PD0, 31 PD1, 32 PD2

## ATmega168PV-10M
designator *  value ATmega168PV-10M  Reference: U
10MHz, 16kB Flash, 1kB SRAM, 512B EEPROM, QFN-32; ki_keywords: AVR 8bit Microcontroller MegaAVR; ki_fp_filters: QFN*1EP*5x5mm*P0.5mm*; Footprint: Package_DFN_QFN:QFN-32-1EP_5x5mm_P0.5mm_EP3.1x3.1mm; Datasheet: http://ww1.microchip.com/downloads/en/DeviceDoc/Atmel-8025-8-bit-AVR-Microcontroller-ATmega48P-88P-168P_Datasheet.pdf; Description_: 10MHz, 16kB Flash, 1kB SRAM, 512B EEPROM, QFN-32
pins: 1 PD3, 2 PD4, 3 GND, 4 VCC, 5 GND, 6 VCC, 7 XTAL1/PB6, 8 XTAL2/PB7, 9 PD5, 10 PD6, 11 PD7, 12 PB0, 13 PB1, 14 PB2, 15 PB3, 16 PB4, 17 PB5, 18 AVCC, 19 ADC6, 20 AREF, 21 GND, 22 ADC7, 23 PC0, 24 PC1, 25 PC2, 26 PC3, 27 PC4, 28 PC5, 29 ~{{RESET}/PC6}, 30 PD0, 31 PD1, 32 PD2, 33 GND

## ATmega168PV-10P
designator *  value ATmega168PV-10P  Reference: U
10MHz, 16kB Flash, 1kB SRAM, 512B EEPROM, DIP-28; ki_keywords: AVR 8bit Microcontroller MegaAVR; ki_fp_filters: DIP*W7.62mm*; Footprint: Package_DIP:DIP-28_W7.62mm; Datasheet: http://ww1.microchip.com/downloads/en/DeviceDoc/Atmel-8025-8-bit-AVR-Microcontroller-ATmega48P-88P-168P_Datasheet.pdf; Description_: 10MHz, 16kB Flash, 1kB SRAM, 512B EEPROM, DIP-28
pins: 1 ~{{RESET}/PC6}, 2 PD0, 3 PD1, 4 PD2, 5 PD3, 6 PD4, 7 VCC, 8 GND, 9 XTAL1/PB6, 10 XTAL2/PB7, 11 PD5, 12 PD6, 13 PD7, 14 PB0, 15 PB1, 16 PB2, 17 PB3, 18 PB4, 19 PB5, 20 AVCC, 21 AREF, 22 GND, 23 PC0, 24 PC1, 25 PC2, 26 PC3, 27 PC4, 28 PC5

## ATmega168V-10A
designator *  value ATmega168V-10A  Reference: U
10MHz, 16kB Flash, 1kB SRAM, 512B EEPROM, TQFP-32; ki_keywords: AVR 8bit Microcontroller MegaAVR; ki_fp_filters: TQFP*7x7mm*P0.8mm*; Footprint: Package_QFP:TQFP-32_7x7mm_P0.8mm; Datasheet: http://ww1.microchip.com/downloads/en/DeviceDoc/Atmel-2545-8-bit-AVR-Microcontroller-ATmega48-88-168_Datasheet.pdf; Description_: 10MHz, 16kB Flash, 1kB SRAM, 512B EEPROM, TQFP-32
pins: 1 PD3, 2 PD4, 3 GND, 4 VCC, 5 GND, 6 VCC, 7 XTAL1/PB6, 8 XTAL2/PB7, 9 PD5, 10 PD6, 11 PD7, 12 PB0, 13 PB1, 14 PB2, 15 PB3, 16 PB4, 17 PB5, 18 AVCC, 19 ADC6, 20 AREF, 21 GND, 22 ADC7, 23 PC0, 24 PC1, 25 PC2, 26 PC3, 27 PC4, 28 PC5, 29 ~{{RESET}/PC6}, 30 PD0, 31 PD1, 32 PD2

## ATmega168V-10M
designator *  value ATmega168V-10M  Reference: U
10MHz, 16kB Flash, 1kB SRAM, 512B EEPROM, QFN-32; ki_keywords: AVR 8bit Microcontroller MegaAVR; ki_fp_filters: QFN*1EP*5x5mm*P0.5mm*; Footprint: Package_DFN_QFN:QFN-32-1EP_5x5mm_P0.5mm_EP3.1x3.1mm; Datasheet: http://ww1.microchip.com/downloads/en/DeviceDoc/Atmel-2545-8-bit-AVR-Microcontroller-ATmega48-88-168_Datasheet.pdf; Description_: 10MHz, 16kB Flash, 1kB SRAM, 512B EEPROM, QFN-32
pins: 1 PD3, 2 PD4, 3 GND, 4 VCC, 5 GND, 6 VCC, 7 XTAL1/PB6, 8 XTAL2/PB7, 9 PD5, 10 PD6, 11 PD7, 12 PB0, 13 PB1, 14 PB2, 15 PB3, 16 PB4, 17 PB5, 18 AVCC, 19 ADC6, 20 AREF, 21 GND, 22 ADC7, 23 PC0, 24 PC1, 25 PC2, 26 PC3, 27 PC4, 28 PC5, 29 ~{{RESET}/PC6}, 30 PD0, 31 PD1, 32 PD2, 33 GND

## ATmega168V-10P
designator *  value ATmega168V-10P  Reference: U
10MHz, 16kB Flash, 1kB SRAM, 512B EEPROM, DIP-28; ki_keywords: AVR 8bit Microcontroller MegaAVR; ki_fp_filters: DIP*W7.62mm*; Footprint: Package_DIP:DIP-28_W7.62mm; Datasheet: http://ww1.microchip.com/downloads/en/DeviceDoc/Atmel-2545-8-bit-AVR-Microcontroller-ATmega48-88-168_Datasheet.pdf; Description_: 10MHz, 16kB Flash, 1kB SRAM, 512B EEPROM, DIP-28
pins: 1 ~{{RESET}/PC6}, 2 PD0, 3 PD1, 4 PD2, 5 PD3, 6 PD4, 7 VCC, 8 GND, 9 XTAL1/PB6, 10 XTAL2/PB7, 11 PD5, 12 PD6, 13 PD7, 14 PB0, 15 PB1, 16 PB2, 17 PB3, 18 PB4, 19 PB5, 20 AVCC, 21 AREF, 22 GND, 23 PC0, 24 PC1, 25 PC2, 26 PC3, 27 PC4, 28 PC5

## ATmega169A-A
designator *  value ATmega169A-A  Reference: U
16MHz, 16kB Flash, 1kB SRAM, 512B EEPROM, TQFP-64; ki_keywords: AVR 8bit Microcontroller MegaAVR LCD PicoPower; ki_fp_filters: TQFP*14x14mm*P0.8mm*; Footprint: Package_QFP:TQFP-64_14x14mm_P0.8mm; Datasheet: http://ww1.microchip.com/downloads/en/DeviceDoc/atmel-8284-8-bit-avr-microcontroller-atmega169a_pa_329a_pa_3290a_pa_649a_p_6490a_p_datasheet.pdf; Description_: 16MHz, 16kB Flash, 1kB SRAM, 512B EEPROM, TQFP-64
pins: 1 LCDCAP, 2 PE0, 3 PE1, 4 PE2, 5 PE3, 6 PE4, 7 PE5, 8 PE6, 9 PE7, 10 PB0, 11 PB1, 12 PB2, 13 PB3, 14 PB4, 15 PB5, 16 PB6, 17 PB7, 18 PG3, 19 PG4, 20 PG5/~{{RESET}}, 21 VCC, 22 GND, 23 XTAL2, 24 XTAL1, 25 PD0, 26 PD1, 27 PD2, 28 PD3, 29 PD4, 30 PD5, 31 PD6, 32 PD7, 33 PG0, 34 PG1, 35 PC0, 36 PC1, 37 PC2, 38 PC3, 39 PC4, 40 PC5, 41 PC6, 42 PC7, 43 PG2, 44 PA7, 45 PA6, 46 PA5, 47 PA4, 48 PA3, 49 PA2, 50 PA1, 51 PA0, 52 VCC, 53 GND, 54 PF7, 55 PF6, 56 PF5, 57 PF4, 58 PF3, 59 PF2, 60 PF1, 61 PF0, 62 AREF, 63 GND, 64 AVCC

## ATmega169A-M
designator *  value ATmega169A-M  Reference: U
16MHz, 16kB Flash, 1kB SRAM, 512B EEPROM, QFN-64; ki_keywords: AVR 8bit Microcontroller MegaAVR LCD PicoPower; ki_fp_filters: QFN*1EP*9x9mm*P0.5mm*; Footprint: Package_DFN_QFN:QFN-64-1EP_9x9mm_P0.5mm_EP5.4x5.4mm; Datasheet: http://ww1.microchip.com/downloads/en/DeviceDoc/atmel-8284-8-bit-avr-microcontroller-atmega169a_pa_329a_pa_3290a_pa_649a_p_6490a_p_datasheet.pdf; Description_: 16MHz, 16kB Flash, 1kB SRAM, 512B EEPROM, QFN-64
pins: 1 LCDCAP, 2 PE0, 3 PE1, 4 PE2, 5 PE3, 6 PE4, 7 PE5, 8 PE6, 9 PE7, 10 PB0, 11 PB1, 12 PB2, 13 PB3, 14 PB4, 15 PB5, 16 PB6, 17 PB7, 18 PG3, 19 PG4, 20 PG5/~{{RESET}}, 21 VCC, 22 GND, 23 XTAL2, 24 XTAL1, 25 PD0, 26 PD1, 27 PD2, 28 PD3, 29 PD4, 30 PD5, 31 PD6, 32 PD7, 33 PG0, 34 PG1, 35 PC0, 36 PC1, 37 PC2, 38 PC3, 39 PC4, 40 PC5, 41 PC6, 42 PC7, 43 PG2, 44 PA7, 45 PA6, 46 PA5, 47 PA4, 48 PA3, 49 PA2, 50 PA1, 51 PA0, 52 VCC, 53 GND, 54 PF7, 55 PF6, 56 PF5, 57 PF4, 58 PF3, 59 PF2, 60 PF1, 61 PF0, 62 AREF, 63 GND, 64 AVCC, 65 GND

## ATmega169A-MC
designator *  value ATmega169A-MC  Reference: U
16MHz, 16kB Flash, 1kB SRAM, 512B EEPROM, DRQFN-64; ki_keywords: AVR 8bit Microcontroller MegaAVR LCD PicoPower; ki_fp_filters: Microchip*DRQFN*1EP*7x7mm*P0.65mm*; Footprint: Package_DFN_QFN:Microchip_DRQFN-64-1EP_7x7mm_P0.65mm_EP4.1x4.1mm; Datasheet: http://ww1.microchip.com/downloads/en/DeviceDoc/atmel-8284-8-bit-avr-microcontroller-atmega169a_pa_329a_pa_3290a_pa_649a_p_6490a_p_datasheet.pdf; Description_: 16MHz, 16kB Flash, 1kB SRAM, 512B EEPROM, DRQFN-64
pins: A1 PE0, A2 PE1, A3 PE3, A4 PE5, A5 PE7, A6 PB1, A7 PB3, A8 PB4, A9 PB7, A10 PG3, A11 PG5/~{{RESET}}, A12 GND, A13 XTAL1, A14 PD1, A15 PD3, A16 PD5, A17 PD6, A18 PG1, A19 PC0, A20 PC2, A21 PC4, A22 PC6, A23 PG2, A24 PA6, A25 PA5, A26 PA2, A27 PA1, A28 VCC, A29 PF7, A30 PF5, A31 PF3, A32 PF1, A33 AREF, A34 GND, B1 LCDCAP, B2 PE2, B3 PE4, B4 PE6, B5 PB0, B6 PB2, B7 PB5, B8 PB6, B9 PG4, B10 VCC, B11 XTAL2, B12 PD0, B13 PD2, B14 PD4, B15 PD7, B16 PG0, B17 PC1, B18 PC3, B19 PC5, B20 PC7, B21 PA7, B22 PA4, B23 PA3, B24 PA0, B25 GND, B26 PF6, B27 PF4, B28 PF2, B29 PF0, B30 AVCC, EP GND

## ATmega169P-16A
designator *  value ATmega169P-16A  Reference: U
16MHz, 16kB Flash, 1kB SRAM, 512B EEPROM, TQFP-64; ki_keywords: AVR 8bit Microcontroller MegaAVR LCD PicoPower; ki_fp_filters: TQFP*14x14mm*P0.8mm*; Footprint: Package_QFP:TQFP-64_14x14mm_P0.8mm; Datasheet: http://ww1.microchip.com/downloads/en/DeviceDoc/doc8018.pdf; Description_: 16MHz, 16kB Flash, 1kB SRAM, 512B EEPROM, TQFP-64
pins: 1 LCDCAP, 2 PE0, 3 PE1, 4 PE2, 5 PE3, 6 PE4, 7 PE5, 8 PE6, 9 PE7, 10 PB0, 11 PB1, 12 PB2, 13 PB3, 14 PB4, 15 PB5, 16 PB6, 17 PB7, 18 PG3, 19 PG4, 20 PG5/~{{RESET}}, 21 VCC, 22 GND, 23 XTAL2, 24 XTAL1, 25 PD0, 26 PD1, 27 PD2, 28 PD3, 29 PD4, 30 PD5, 31 PD6, 32 PD7, 33 PG0, 34 PG1, 35 PC0, 36 PC1, 37 PC2, 38 PC3, 39 PC4, 40 PC5, 41 PC6, 42 PC7, 43 PG2, 44 PA7, 45 PA6, 46 PA5, 47 PA4, 48 PA3, 49 PA2, 50 PA1, 51 PA0, 52 VCC, 53 GND, 54 PF7, 55 PF6, 56 PF5, 57 PF4, 58 PF3, 59 PF2, 60 PF1, 61 PF0, 62 AREF, 63 GND, 64 AVCC

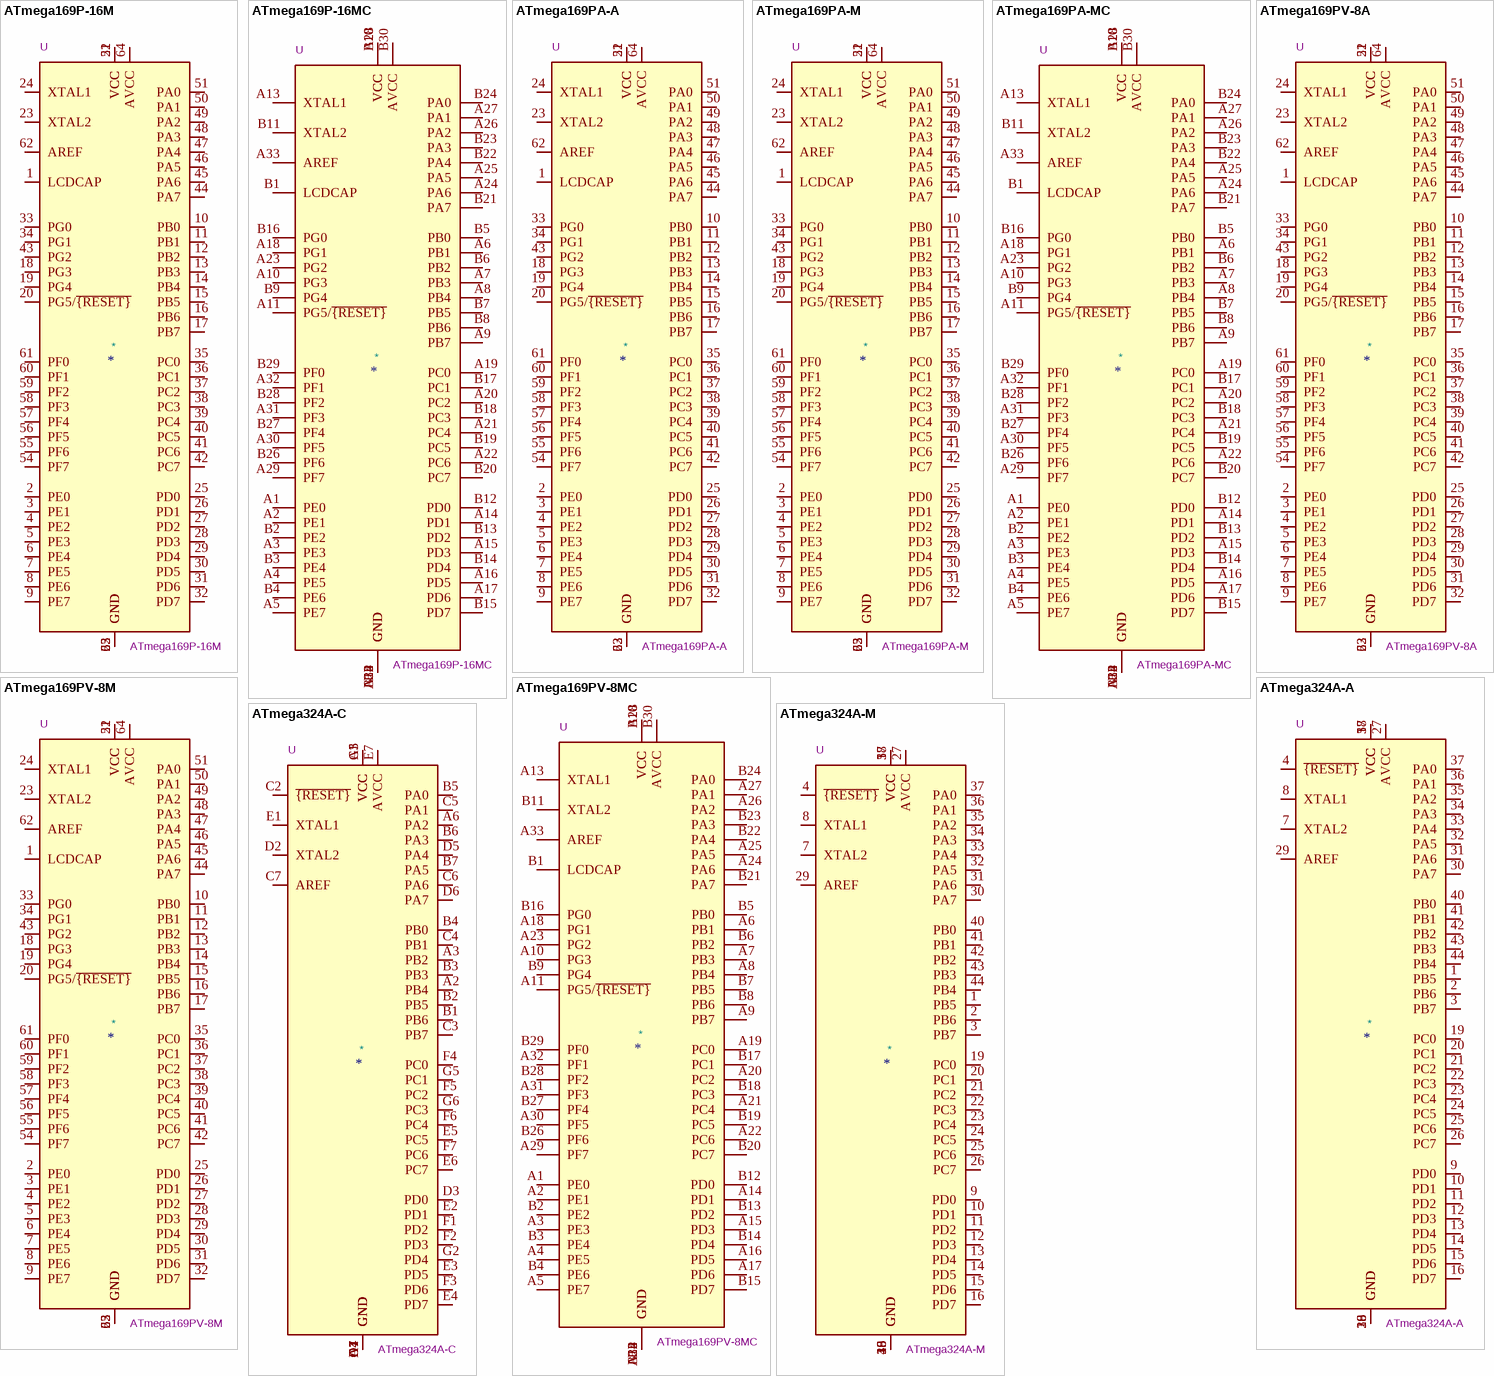
[diagram p13: symbols ATmega169P-16M to ATmega324A-M]

## ATmega169P-16M
designator *  value ATmega169P-16M  Reference: U
16MHz, 16kB Flash, 1kB SRAM, 512B EEPROM, QFN-64; ki_keywords: AVR 8bit Microcontroller MegaAVR LCD PicoPower; ki_fp_filters: QFN*1EP*9x9mm*P0.5mm*; Footprint: Package_DFN_QFN:QFN-64-1EP_9x9mm_P0.5mm_EP5.4x5.4mm; Datasheet: http://ww1.microchip.com/downloads/en/DeviceDoc/doc8018.pdf; Description_: 16MHz, 16kB Flash, 1kB SRAM, 512B EEPROM, QFN-64
pins: 1 LCDCAP, 2 PE0, 3 PE1, 4 PE2, 5 PE3, 6 PE4, 7 PE5, 8 PE6, 9 PE7, 10 PB0, 11 PB1, 12 PB2, 13 PB3, 14 PB4, 15 PB5, 16 PB6, 17 PB7, 18 PG3, 19 PG4, 20 PG5/~{{RESET}}, 21 VCC, 22 GND, 23 XTAL2, 24 XTAL1, 25 PD0, 26 PD1, 27 PD2, 28 PD3, 29 PD4, 30 PD5, 31 PD6, 32 PD7, 33 PG0, 34 PG1, 35 PC0, 36 PC1, 37 PC2, 38 PC3, 39 PC4, 40 PC5, 41 PC6, 42 PC7, 43 PG2, 44 PA7, 45 PA6, 46 PA5, 47 PA4, 48 PA3, 49 PA2, 50 PA1, 51 PA0, 52 VCC, 53 GND, 54 PF7, 55 PF6, 56 PF5, 57 PF4, 58 PF3, 59 PF2, 60 PF1, 61 PF0, 62 AREF, 63 GND, 64 AVCC, 65 GND

## ATmega169P-16MC
designator *  value ATmega169P-16MC  Reference: U
16MHz, 16kB Flash, 1kB SRAM, 512B EEPROM, DRQFN-64; ki_keywords: AVR 8bit Microcontroller MegaAVR LCD PicoPower; ki_fp_filters: Microchip*DRQFN*1EP*7x7mm*P0.65mm*; Footprint: Package_DFN_QFN:Microchip_DRQFN-64-1EP_7x7mm_P0.65mm_EP4.1x4.1mm; Datasheet: http://ww1.microchip.com/downloads/en/DeviceDoc/doc8018.pdf; Description_: 16MHz, 16kB Flash, 1kB SRAM, 512B EEPROM, DRQFN-64
pins: A1 PE0, A2 PE1, A3 PE3, A4 PE5, A5 PE7, A6 PB1, A7 PB3, A8 PB4, A9 PB7, A10 PG3, A11 PG5/~{{RESET}}, A12 GND, A13 XTAL1, A14 PD1, A15 PD3, A16 PD5, A17 PD6, A18 PG1, A19 PC0, A20 PC2, A21 PC4, A22 PC6, A23 PG2, A24 PA6, A25 PA5, A26 PA2, A27 PA1, A28 VCC, A29 PF7, A30 PF5, A31 PF3, A32 PF1, A33 AREF, A34 GND, B1 LCDCAP, B2 PE2, B3 PE4, B4 PE6, B5 PB0, B6 PB2, B7 PB5, B8 PB6, B9 PG4, B10 VCC, B11 XTAL2, B12 PD0, B13 PD2, B14 PD4, B15 PD7, B16 PG0, B17 PC1, B18 PC3, B19 PC5, B20 PC7, B21 PA7, B22 PA4, B23 PA3, B24 PA0, B25 GND, B26 PF6, B27 PF4, B28 PF2, B29 PF0, B30 AVCC, EP GND

## ATmega169PA-A
designator *  value ATmega169PA-A  Reference: U
16MHz, 16kB Flash, 1kB SRAM, 512B EEPROM, TQFP-64; ki_keywords: AVR 8bit Microcontroller MegaAVR LCD PicoPower; ki_fp_filters: TQFP*14x14mm*P0.8mm*; Footprint: Package_QFP:TQFP-64_14x14mm_P0.8mm; Datasheet: http://ww1.microchip.com/downloads/en/DeviceDoc/atmel-8284-8-bit-avr-microcontroller-atmega169a_pa_329a_pa_3290a_pa_649a_p_6490a_p_datasheet.pdf; Description_: 16MHz, 16kB Flash, 1kB SRAM, 512B EEPROM, TQFP-64
pins: 1 LCDCAP, 2 PE0, 3 PE1, 4 PE2, 5 PE3, 6 PE4, 7 PE5, 8 PE6, 9 PE7, 10 PB0, 11 PB1, 12 PB2, 13 PB3, 14 PB4, 15 PB5, 16 PB6, 17 PB7, 18 PG3, 19 PG4, 20 PG5/~{{RESET}}, 21 VCC, 22 GND, 23 XTAL2, 24 XTAL1, 25 PD0, 26 PD1, 27 PD2, 28 PD3, 29 PD4, 30 PD5, 31 PD6, 32 PD7, 33 PG0, 34 PG1, 35 PC0, 36 PC1, 37 PC2, 38 PC3, 39 PC4, 40 PC5, 41 PC6, 42 PC7, 43 PG2, 44 PA7, 45 PA6, 46 PA5, 47 PA4, 48 PA3, 49 PA2, 50 PA1, 51 PA0, 52 VCC, 53 GND, 54 PF7, 55 PF6, 56 PF5, 57 PF4, 58 PF3, 59 PF2, 60 PF1, 61 PF0, 62 AREF, 63 GND, 64 AVCC

## ATmega169PA-M
designator *  value ATmega169PA-M  Reference: U
16MHz, 16kB Flash, 1kB SRAM, 512B EEPROM, QFN-64; ki_keywords: AVR 8bit Microcontroller MegaAVR LCD PicoPower; ki_fp_filters: QFN*1EP*9x9mm*P0.5mm*; Footprint: Package_DFN_QFN:QFN-64-1EP_9x9mm_P0.5mm_EP5.4x5.4mm; Datasheet: http://ww1.microchip.com/downloads/en/DeviceDoc/atmel-8284-8-bit-avr-microcontroller-atmega169a_pa_329a_pa_3290a_pa_649a_p_6490a_p_datasheet.pdf; Description_: 16MHz, 16kB Flash, 1kB SRAM, 512B EEPROM, QFN-64
pins: 1 LCDCAP, 2 PE0, 3 PE1, 4 PE2, 5 PE3, 6 PE4, 7 PE5, 8 PE6, 9 PE7, 10 PB0, 11 PB1, 12 PB2, 13 PB3, 14 PB4, 15 PB5, 16 PB6, 17 PB7, 18 PG3, 19 PG4, 20 PG5/~{{RESET}}, 21 VCC, 22 GND, 23 XTAL2, 24 XTAL1, 25 PD0, 26 PD1, 27 PD2, 28 PD3, 29 PD4, 30 PD5, 31 PD6, 32 PD7, 33 PG0, 34 PG1, 35 PC0, 36 PC1, 37 PC2, 38 PC3, 39 PC4, 40 PC5, 41 PC6, 42 PC7, 43 PG2, 44 PA7, 45 PA6, 46 PA5, 47 PA4, 48 PA3, 49 PA2, 50 PA1, 51 PA0, 52 VCC, 53 GND, 54 PF7, 55 PF6, 56 PF5, 57 PF4, 58 PF3, 59 PF2, 60 PF1, 61 PF0, 62 AREF, 63 GND, 64 AVCC, 65 GND

## ATmega169PA-MC
designator *  value ATmega169PA-MC  Reference: U
16MHz, 16kB Flash, 1kB SRAM, 512B EEPROM, DRQFN-64; ki_keywords: AVR 8bit Microcontroller MegaAVR LCD PicoPower; ki_fp_filters: Microchip*DRQFN*1EP*7x7mm*P0.65mm*; Footprint: Package_DFN_QFN:Microchip_DRQFN-64-1EP_7x7mm_P0.65mm_EP4.1x4.1mm; Datasheet: http://ww1.microchip.com/downloads/en/DeviceDoc/atmel-8284-8-bit-avr-microcontroller-atmega169a_pa_329a_pa_3290a_pa_649a_p_6490a_p_datasheet.pdf; Description_: 16MHz, 16kB Flash, 1kB SRAM, 512B EEPROM, DRQFN-64
pins: A1 PE0, A2 PE1, A3 PE3, A4 PE5, A5 PE7, A6 PB1, A7 PB3, A8 PB4, A9 PB7, A10 PG3, A11 PG5/~{{RESET}}, A12 GND, A13 XTAL1, A14 PD1, A15 PD3, A16 PD5, A17 PD6, A18 PG1, A19 PC0, A20 PC2, A21 PC4, A22 PC6, A23 PG2, A24 PA6, A25 PA5, A26 PA2, A27 PA1, A28 VCC, A29 PF7, A30 PF5, A31 PF3, A32 PF1, A33 AREF, A34 GND, B1 LCDCAP, B2 PE2, B3 PE4, B4 PE6, B5 PB0, B6 PB2, B7 PB5, B8 PB6, B9 PG4, B10 VCC, B11 XTAL2, B12 PD0, B13 PD2, B14 PD4, B15 PD7, B16 PG0, B17 PC1, B18 PC3, B19 PC5, B20 PC7, B21 PA7, B22 PA4, B23 PA3, B24 PA0, B25 GND, B26 PF6, B27 PF4, B28 PF2, B29 PF0, B30 AVCC, EP GND

## ATmega169PV-8A
designator *  value ATmega169PV-8A  Reference: U
8MHz, 16kB Flash, 1kB SRAM, 512B EEPROM, TQFP-64; ki_keywords: AVR 8bit Microcontroller MegaAVR LCD PicoPower; ki_fp_filters: TQFP*14x14mm*P0.8mm*; Footprint: Package_QFP:TQFP-64_14x14mm_P0.8mm; Datasheet: http://ww1.microchip.com/downloads/en/DeviceDoc/doc8018.pdf; Description_: 8MHz, 16kB Flash, 1kB SRAM, 512B EEPROM, TQFP-64
pins: 1 LCDCAP, 2 PE0, 3 PE1, 4 PE2, 5 PE3, 6 PE4, 7 PE5, 8 PE6, 9 PE7, 10 PB0, 11 PB1, 12 PB2, 13 PB3, 14 PB4, 15 PB5, 16 PB6, 17 PB7, 18 PG3, 19 PG4, 20 PG5/~{{RESET}}, 21 VCC, 22 GND, 23 XTAL2, 24 XTAL1, 25 PD0, 26 PD1, 27 PD2, 28 PD3, 29 PD4, 30 PD5, 31 PD6, 32 PD7, 33 PG0, 34 PG1, 35 PC0, 36 PC1, 37 PC2, 38 PC3, 39 PC4, 40 PC5, 41 PC6, 42 PC7, 43 PG2, 44 PA7, 45 PA6, 46 PA5, 47 PA4, 48 PA3, 49 PA2, 50 PA1, 51 PA0, 52 VCC, 53 GND, 54 PF7, 55 PF6, 56 PF5, 57 PF4, 58 PF3, 59 PF2, 60 PF1, 61 PF0, 62 AREF, 63 GND, 64 AVCC

## ATmega169PV-8M
designator *  value ATmega169PV-8M  Reference: U
8MHz, 16kB Flash, 1kB SRAM, 512B EEPROM, QFN-64; ki_keywords: AVR 8bit Microcontroller MegaAVR LCD PicoPower; ki_fp_filters: QFN*1EP*9x9mm*P0.5mm*; Footprint: Package_DFN_QFN:QFN-64-1EP_9x9mm_P0.5mm_EP5.4x5.4mm; Datasheet: http://ww1.microchip.com/downloads/en/DeviceDoc/doc8018.pdf; Description_: 8MHz, 16kB Flash, 1kB SRAM, 512B EEPROM, QFN-64
pins: 1 LCDCAP, 2 PE0, 3 PE1, 4 PE2, 5 PE3, 6 PE4, 7 PE5, 8 PE6, 9 PE7, 10 PB0, 11 PB1, 12 PB2, 13 PB3, 14 PB4, 15 PB5, 16 PB6, 17 PB7, 18 PG3, 19 PG4, 20 PG5/~{{RESET}}, 21 VCC, 22 GND, 23 XTAL2, 24 XTAL1, 25 PD0, 26 PD1, 27 PD2, 28 PD3, 29 PD4, 30 PD5, 31 PD6, 32 PD7, 33 PG0, 34 PG1, 35 PC0, 36 PC1, 37 PC2, 38 PC3, 39 PC4, 40 PC5, 41 PC6, 42 PC7, 43 PG2, 44 PA7, 45 PA6, 46 PA5, 47 PA4, 48 PA3, 49 PA2, 50 PA1, 51 PA0, 52 VCC, 53 GND, 54 PF7, 55 PF6, 56 PF5, 57 PF4, 58 PF3, 59 PF2, 60 PF1, 61 PF0, 62 AREF, 63 GND, 64 AVCC, 65 GND

## ATmega169PV-8MC
designator *  value ATmega169PV-8MC  Reference: U
8MHz, 16kB Flash, 1kB SRAM, 512B EEPROM, DRQFN-64; ki_keywords: AVR 8bit Microcontroller MegaAVR LCD PicoPower; ki_fp_filters: Microchip*DRQFN*1EP*7x7mm*P0.65mm*; Footprint: Package_DFN_QFN:Microchip_DRQFN-64-1EP_7x7mm_P0.65mm_EP4.1x4.1mm; Datasheet: http://ww1.microchip.com/downloads/en/DeviceDoc/doc8018.pdf; Description_: 8MHz, 16kB Flash, 1kB SRAM, 512B EEPROM, DRQFN-64
pins: A1 PE0, A2 PE1, A3 PE3, A4 PE5, A5 PE7, A6 PB1, A7 PB3, A8 PB4, A9 PB7, A10 PG3, A11 PG5/~{{RESET}}, A12 GND, A13 XTAL1, A14 PD1, A15 PD3, A16 PD5, A17 PD6, A18 PG1, A19 PC0, A20 PC2, A21 PC4, A22 PC6, A23 PG2, A24 PA6, A25 PA5, A26 PA2, A27 PA1, A28 VCC, A29 PF7, A30 PF5, A31 PF3, A32 PF1, A33 AREF, A34 GND, B1 LCDCAP, B2 PE2, B3 PE4, B4 PE6, B5 PB0, B6 PB2, B7 PB5, B8 PB6, B9 PG4, B10 VCC, B11 XTAL2, B12 PD0, B13 PD2, B14 PD4, B15 PD7, B16 PG0, B17 PC1, B18 PC3, B19 PC5, B20 PC7, B21 PA7, B22 PA4, B23 PA3, B24 PA0, B25 GND, B26 PF6, B27 PF4, B28 PF2, B29 PF0, B30 AVCC, EP GND

## ATmega324A-A
designator *  value ATmega324A-A  Reference: U
20MHz, 32kB Flash, 2kB SRAM, 1kB EEPROM, JTAG, TQFP-44; ki_keywords: AVR 8bit Microcontroller MegaAVR; ki_fp_filters: TQFP*10x10mm*P0.8mm*; Footprint: Package_QFP:TQFP-44_10x10mm_P0.8mm; Datasheet: http://ww1.microchip.com/downloads/en/DeviceDoc/Atmel-8272-8-bit-AVR-microcontroller-ATmega164A_PA-324A_PA-644A_PA-1284_P_datasheet.pdf; Description_: 20MHz, 32kB Flash, 2kB SRAM, 1kB EEPROM, JTAG, TQFP-44
pins: 1 PB5, 2 PB6, 3 PB7, 4 ~{{RESET}}, 5 VCC, 6 GND, 7 XTAL2, 8 XTAL1, 9 PD0, 10 PD1, 11 PD2, 12 PD3, 13 PD4, 14 PD5, 15 PD6, 16 PD7, 17 VCC, 18 GND, 19 PC0, 20 PC1, 21 PC2, 22 PC3, 23 PC4, 24 PC5, 25 PC6, 26 PC7, 27 AVCC, 28 GND, 29 AREF, 30 PA7, 31 PA6, 32 PA5, 33 PA4, 34 PA3, 35 PA2, 36 PA1, 37 PA0, 38 VCC, 39 GND, 40 PB0, 41 PB1, 42 PB2, 43 PB3, 44 PB4

## ATmega324A-C
designator *  value ATmega324A-C  Reference: U
20MHz, 32kB Flash, 2kB SRAM, 1kB EEPROM, JTAG, VFBGA-49; ki_keywords: AVR 8bit Microcontroller MegaAVR; ki_fp_filters: VFBGA*5.0x5.0mm*Layout7x7*P0.65mm*; Footprint: Package_BGA:VFBGA-49_5.0x5.0mm_Layout7x7_P0.65mm; Datasheet: http://ww1.microchip.com/downloads/en/DeviceDoc/Atmel-8272-8-bit-AVR-microcontroller-ATmega164A_PA-324A_PA-644A_PA-1284_P_datasheet.pdf; Description_: 20MHz, 32kB Flash, 2kB SRAM, 1kB EEPROM, JTAG, VFBGA-49
pins: A1 GND, A2 PB4, A3 PB2, A4 GND, A5 VCC, A6 PA2, A7 GND, B1 PB6, B2 PB5, B3 PB3, B4 PB0, B5 PA0, B6 PA3, B7 PA5, C1 VCC, C2 ~{{RESET}}, C3 PB7, C4 PB1, C5 PA1, C6 PA6, C7 AREF, D1 GND, D2 XTAL2, D3 PD0, D4 GND, D5 PA4, D6 PA7, D7 GND, E1 XTAL1, E2 PD1, E3 PD5, E4 PD7, E5 PC5, E6 PC7, E7 AVCC, F1 PD2, F2 PD3, F3 PD6, F4 PC0, F5 PC2, F6 PC4, F7 PC6, G1 GND, G2 PD4, G3 VCC, G4 GND, G5 PC1, G6 PC3, G7 GND

## ATmega324A-M
designator *  value ATmega324A-M  Reference: U
20MHz, 32kB Flash, 2kB SRAM, 1kB EEPROM, JTAG, QFN-44; ki_keywords: AVR 8bit Microcontroller MegaAVR; ki_fp_filters: QFN*1EP*7x7mm*P0.5mm*; Footprint: Package_DFN_QFN:QFN-44-1EP_7x7mm_P0.5mm_EP5.2x5.2mm; Datasheet: http://ww1.microchip.com/downloads/en/DeviceDoc/Atmel-8272-8-bit-AVR-microcontroller-ATmega164A_PA-324A_PA-644A_PA-1284_P_datasheet.pdf; Description_: 20MHz, 32kB Flash, 2kB SRAM, 1kB EEPROM, JTAG, QFN-44
pins: 1 PB5, 2 PB6, 3 PB7, 4 ~{{RESET}}, 5 VCC, 6 GND, 7 XTAL2, 8 XTAL1, 9 PD0, 10 PD1, 11 PD2, 12 PD3, 13 PD4, 14 PD5, 15 PD6, 16 PD7, 17 VCC, 18 GND, 19 PC0, 20 PC1, 21 PC2, 22 PC3, 23 PC4, 24 PC5, 25 PC6, 26 PC7, 27 AVCC, 28 GND, 29 AREF, 30 PA7, 31 PA6, 32 PA5, 33 PA4, 34 PA3, 35 PA2, 36 PA1, 37 PA0, 38 VCC, 39 GND, 40 PB0, 41 PB1, 42 PB2, 43 PB3, 44 PB4, 45 GND

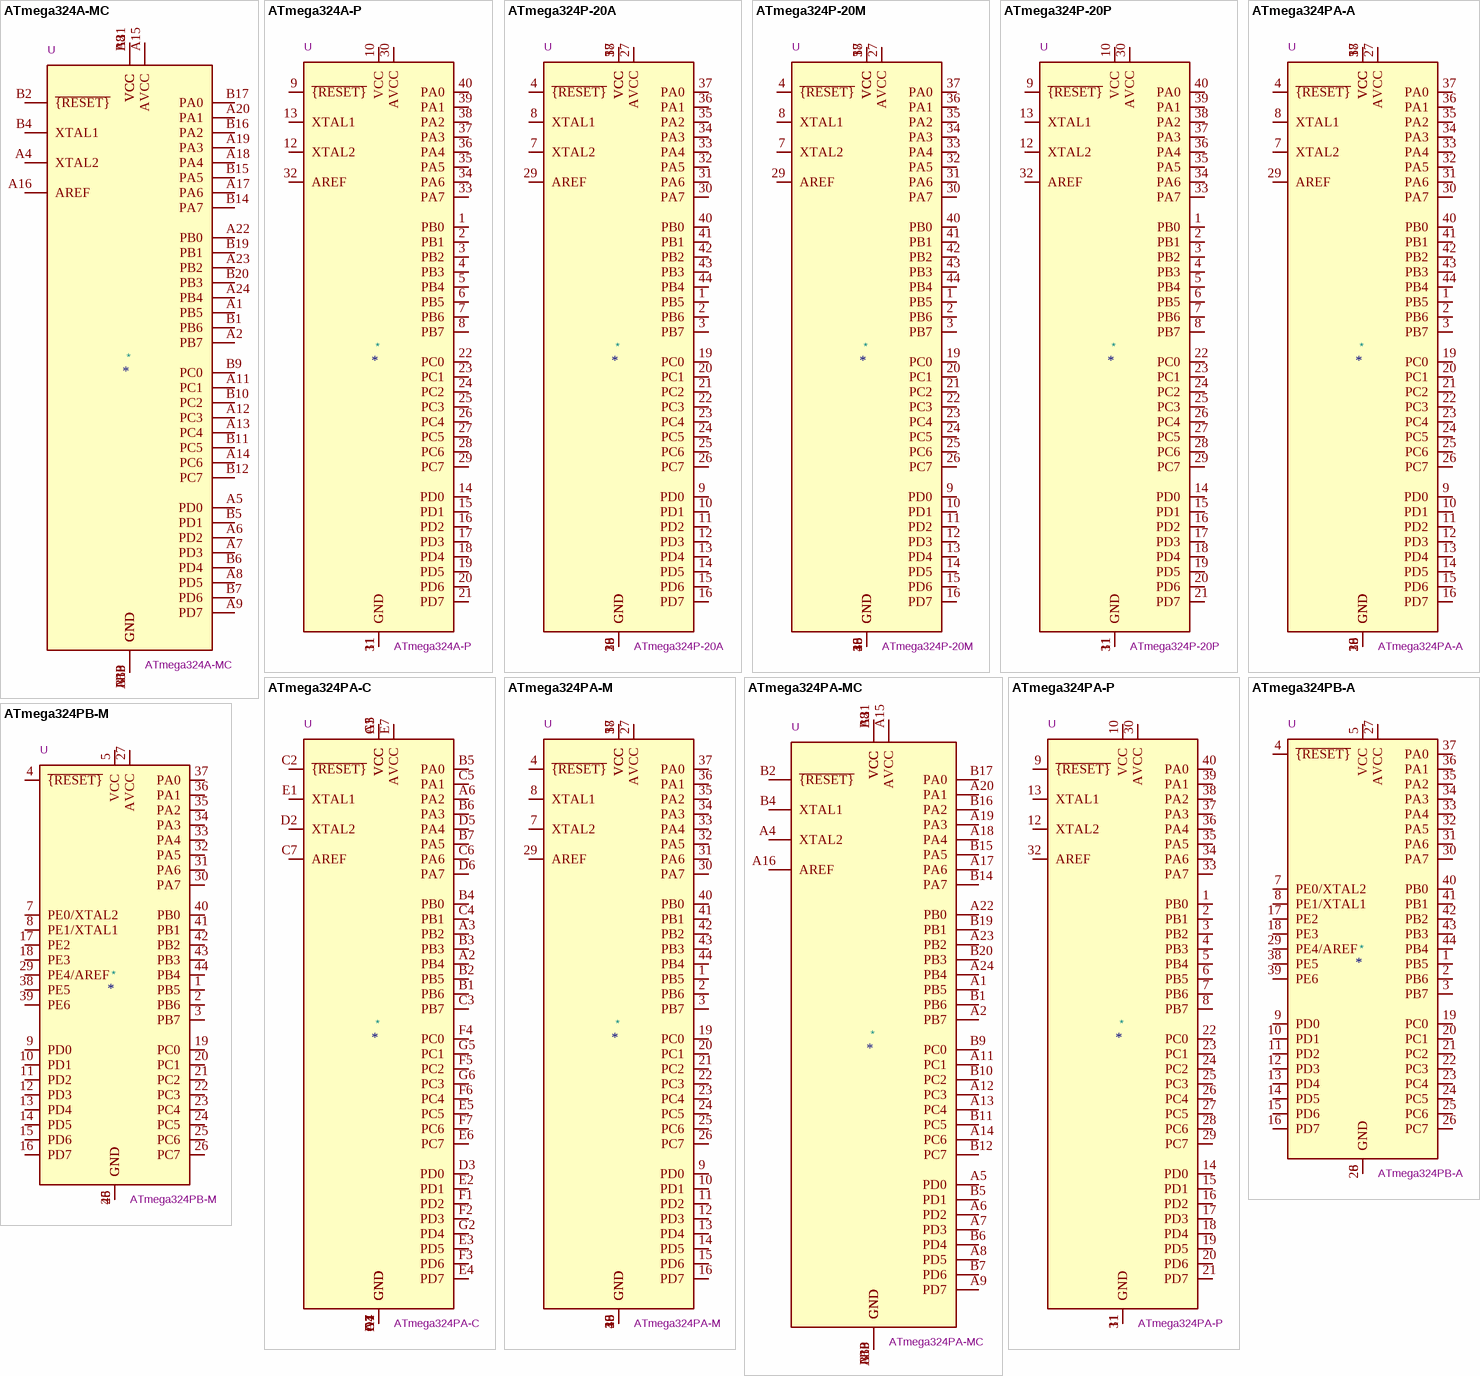
[diagram p14: symbols ATmega324A-MC to ATmega324PB-M]

## ATmega324A-MC
designator *  value ATmega324A-MC  Reference: U
20MHz, 32kB Flash, 2kB SRAM, 1kB EEPROM, JTAG, DRQFN-44; ki_keywords: AVR 8bit Microcontroller MegaAVR; ki_fp_filters: Microchip*DRQFN*1EP*5x5mm*P0.7mm*; Footprint: Package_DFN_QFN:Microchip_DRQFN-44-1EP_5x5mm_P0.7mm_EP2.65x2.65mm; Datasheet: http://ww1.microchip.com/downloads/en/DeviceDoc/Atmel-8272-8-bit-AVR-microcontroller-ATmega164A_PA-324A_PA-644A_PA-1284_P_datasheet.pdf; Description_: 20MHz, 32kB Flash, 2kB SRAM, 1kB EEPROM, JTAG, DRQFN-44
pins: A1 PB5, A2 PB7, A3 VCC, A4 XTAL2, A5 PD0, A6 PD2, A7 PD3, A8 PD5, A9 PD7, A10 GND, A11 PC1, A12 PC3, A13 PC4, A14 PC6, A15 AVCC, A16 AREF, A17 PA6, A18 PA4, A19 PA3, A20 PA1, A21 VCC, A22 PB0, A23 PB2, A24 PB4, B1 PB6, B2 ~{{RESET}}, B3 GND, B4 XTAL1, B5 PD1, B6 PD4, B7 PD6, B8 VCC, B9 PC0, B10 PC2, B11 PC5, B12 PC7, B13 GND, B14 PA7, B15 PA5, B16 PA2, B17 PA0, B18 GND, B19 PB1, B20 PB3, EP GND

## ATmega324A-P
designator *  value ATmega324A-P  Reference: U
20MHz, 32kB Flash, 2kB SRAM, 1kB EEPROM, JTAG, DIP-40; ki_keywords: AVR 8bit Microcontroller MegaAVR; ki_fp_filters: DIP*W15.24mm*; Footprint: Package_DIP:DIP-40_W15.24mm; Datasheet: http://ww1.microchip.com/downloads/en/DeviceDoc/Atmel-8272-8-bit-AVR-microcontroller-ATmega164A_PA-324A_PA-644A_PA-1284_P_datasheet.pdf; Description_: 20MHz, 32kB Flash, 2kB SRAM, 1kB EEPROM, JTAG, DIP-40
pins: 1 PB0, 2 PB1, 3 PB2, 4 PB3, 5 PB4, 6 PB5, 7 PB6, 8 PB7, 9 ~{{RESET}}, 10 VCC, 11 GND, 12 XTAL2, 13 XTAL1, 14 PD0, 15 PD1, 16 PD2, 17 PD3, 18 PD4, 19 PD5, 20 PD6, 21 PD7, 22 PC0, 23 PC1, 24 PC2, 25 PC3, 26 PC4, 27 PC5, 28 PC6, 29 PC7, 30 AVCC, 31 GND, 32 AREF, 33 PA7, 34 PA6, 35 PA5, 36 PA4, 37 PA3, 38 PA2, 39 PA1, 40 PA0

## ATmega324P-20A
designator *  value ATmega324P-20A  Reference: U
20MHz, 32kB Flash, 2kB SRAM, 1kB EEPROM, JTAG, TQFP-44; ki_keywords: AVR 8bit Microcontroller MegaAVR PicoPower; ki_fp_filters: TQFP*10x10mm*P0.8mm*; Footprint: Package_QFP:TQFP-44_10x10mm_P0.8mm; Datasheet: http://ww1.microchip.com/downloads/en/DeviceDoc/Atmel-42743-ATmega324P_Datasheet.pdf; Description_: 20MHz, 32kB Flash, 2kB SRAM, 1kB EEPROM, JTAG, TQFP-44
pins: 1 PB5, 2 PB6, 3 PB7, 4 ~{{RESET}}, 5 VCC, 6 GND, 7 XTAL2, 8 XTAL1, 9 PD0, 10 PD1, 11 PD2, 12 PD3, 13 PD4, 14 PD5, 15 PD6, 16 PD7, 17 VCC, 18 GND, 19 PC0, 20 PC1, 21 PC2, 22 PC3, 23 PC4, 24 PC5, 25 PC6, 26 PC7, 27 AVCC, 28 GND, 29 AREF, 30 PA7, 31 PA6, 32 PA5, 33 PA4, 34 PA3, 35 PA2, 36 PA1, 37 PA0, 38 VCC, 39 GND, 40 PB0, 41 PB1, 42 PB2, 43 PB3, 44 PB4

## ATmega324P-20M
designator *  value ATmega324P-20M  Reference: U
20MHz, 32kB Flash, 2kB SRAM, 1kB EEPROM, JTAG, QFN-44; ki_keywords: AVR 8bit Microcontroller MegaAVR PicoPower; ki_fp_filters: QFN*1EP*7x7mm*P0.5mm*; Footprint: Package_DFN_QFN:QFN-44-1EP_7x7mm_P0.5mm_EP5.2x5.2mm; Datasheet: http://ww1.microchip.com/downloads/en/DeviceDoc/Atmel-42743-ATmega324P_Datasheet.pdf; Description_: 20MHz, 32kB Flash, 2kB SRAM, 1kB EEPROM, JTAG, QFN-44
pins: 1 PB5, 2 PB6, 3 PB7, 4 ~{{RESET}}, 5 VCC, 6 GND, 7 XTAL2, 8 XTAL1, 9 PD0, 10 PD1, 11 PD2, 12 PD3, 13 PD4, 14 PD5, 15 PD6, 16 PD7, 17 VCC, 18 GND, 19 PC0, 20 PC1, 21 PC2, 22 PC3, 23 PC4, 24 PC5, 25 PC6, 26 PC7, 27 AVCC, 28 GND, 29 AREF, 30 PA7, 31 PA6, 32 PA5, 33 PA4, 34 PA3, 35 PA2, 36 PA1, 37 PA0, 38 VCC, 39 GND, 40 PB0, 41 PB1, 42 PB2, 43 PB3, 44 PB4, 45 GND

## ATmega324P-20P
designator *  value ATmega324P-20P  Reference: U
20MHz, 32kB Flash, 2kB SRAM, 1kB EEPROM, JTAG, DIP-40; ki_keywords: AVR 8bit Microcontroller MegaAVR PicoPower; ki_fp_filters: DIP*W15.24mm*; Footprint: Package_DIP:DIP-40_W15.24mm; Datasheet: http://ww1.microchip.com/downloads/en/DeviceDoc/Atmel-42743-ATmega324P_Datasheet.pdf; Description_: 20MHz, 32kB Flash, 2kB SRAM, 1kB EEPROM, JTAG, DIP-40
pins: 1 PB0, 2 PB1, 3 PB2, 4 PB3, 5 PB4, 6 PB5, 7 PB6, 8 PB7, 9 ~{{RESET}}, 10 VCC, 11 GND, 12 XTAL2, 13 XTAL1, 14 PD0, 15 PD1, 16 PD2, 17 PD3, 18 PD4, 19 PD5, 20 PD6, 21 PD7, 22 PC0, 23 PC1, 24 PC2, 25 PC3, 26 PC4, 27 PC5, 28 PC6, 29 PC7, 30 AVCC, 31 GND, 32 AREF, 33 PA7, 34 PA6, 35 PA5, 36 PA4, 37 PA3, 38 PA2, 39 PA1, 40 PA0

## ATmega324PA-A
designator *  value ATmega324PA-A  Reference: U
20MHz, 32kB Flash, 2kB SRAM, 1kB EEPROM, JTAG, TQFP-44; ki_keywords: AVR 8bit Microcontroller MegaAVR PicoPower; ki_fp_filters: TQFP*10x10mm*P0.8mm*; Footprint: Package_QFP:TQFP-44_10x10mm_P0.8mm; Datasheet: http://ww1.microchip.com/downloads/en/DeviceDoc/Atmel-8272-8-bit-AVR-microcontroller-ATmega164A_PA-324A_PA-644A_PA-1284_P_datasheet.pdf; Description_: 20MHz, 32kB Flash, 2kB SRAM, 1kB EEPROM, JTAG, TQFP-44
pins: 1 PB5, 2 PB6, 3 PB7, 4 ~{{RESET}}, 5 VCC, 6 GND, 7 XTAL2, 8 XTAL1, 9 PD0, 10 PD1, 11 PD2, 12 PD3, 13 PD4, 14 PD5, 15 PD6, 16 PD7, 17 VCC, 18 GND, 19 PC0, 20 PC1, 21 PC2, 22 PC3, 23 PC4, 24 PC5, 25 PC6, 26 PC7, 27 AVCC, 28 GND, 29 AREF, 30 PA7, 31 PA6, 32 PA5, 33 PA4, 34 PA3, 35 PA2, 36 PA1, 37 PA0, 38 VCC, 39 GND, 40 PB0, 41 PB1, 42 PB2, 43 PB3, 44 PB4

## ATmega324PA-C
designator *  value ATmega324PA-C  Reference: U
20MHz, 32kB Flash, 2kB SRAM, 1kB EEPROM, JTAG, VFBGA-49; ki_keywords: AVR 8bit Microcontroller MegaAVR PicoPower; ki_fp_filters: VFBGA*5.0x5.0mm*Layout7x7*P0.65mm*; Footprint: Package_BGA:VFBGA-49_5.0x5.0mm_Layout7x7_P0.65mm; Datasheet: http://ww1.microchip.com/downloads/en/DeviceDoc/Atmel-8272-8-bit-AVR-microcontroller-ATmega164A_PA-324A_PA-644A_PA-1284_P_datasheet.pdf; Description_: 20MHz, 32kB Flash, 2kB SRAM, 1kB EEPROM, JTAG, VFBGA-49
pins: A1 GND, A2 PB4, A3 PB2, A4 GND, A5 VCC, A6 PA2, A7 GND, B1 PB6, B2 PB5, B3 PB3, B4 PB0, B5 PA0, B6 PA3, B7 PA5, C1 VCC, C2 ~{{RESET}}, C3 PB7, C4 PB1, C5 PA1, C6 PA6, C7 AREF, D1 GND, D2 XTAL2, D3 PD0, D4 GND, D5 PA4, D6 PA7, D7 GND, E1 XTAL1, E2 PD1, E3 PD5, E4 PD7, E5 PC5, E6 PC7, E7 AVCC, F1 PD2, F2 PD3, F3 PD6, F4 PC0, F5 PC2, F6 PC4, F7 PC6, G1 GND, G2 PD4, G3 VCC, G4 GND, G5 PC1, G6 PC3, G7 GND

## ATmega324PA-M
designator *  value ATmega324PA-M  Reference: U
20MHz, 32kB Flash, 2kB SRAM, 1kB EEPROM, JTAG, QFN-44; ki_keywords: AVR 8bit Microcontroller MegaAVR PicoPower; ki_fp_filters: QFN*1EP*7x7mm*P0.5mm*; Footprint: Package_DFN_QFN:QFN-44-1EP_7x7mm_P0.5mm_EP5.2x5.2mm; Datasheet: http://ww1.microchip.com/downloads/en/DeviceDoc/Atmel-8272-8-bit-AVR-microcontroller-ATmega164A_PA-324A_PA-644A_PA-1284_P_datasheet.pdf; Description_: 20MHz, 32kB Flash, 2kB SRAM, 1kB EEPROM, JTAG, QFN-44
pins: 1 PB5, 2 PB6, 3 PB7, 4 ~{{RESET}}, 5 VCC, 6 GND, 7 XTAL2, 8 XTAL1, 9 PD0, 10 PD1, 11 PD2, 12 PD3, 13 PD4, 14 PD5, 15 PD6, 16 PD7, 17 VCC, 18 GND, 19 PC0, 20 PC1, 21 PC2, 22 PC3, 23 PC4, 24 PC5, 25 PC6, 26 PC7, 27 AVCC, 28 GND, 29 AREF, 30 PA7, 31 PA6, 32 PA5, 33 PA4, 34 PA3, 35 PA2, 36 PA1, 37 PA0, 38 VCC, 39 GND, 40 PB0, 41 PB1, 42 PB2, 43 PB3, 44 PB4, 45 GND

## ATmega324PA-MC
designator *  value ATmega324PA-MC  Reference: U
20MHz, 32kB Flash, 2kB SRAM, 1kB EEPROM, JTAG, DRQFN-44; ki_keywords: AVR 8bit Microcontroller MegaAVR; ki_fp_filters: Microchip*DRQFN*1EP*5x5mm*P0.7mm*; Footprint: Package_DFN_QFN:Microchip_DRQFN-44-1EP_5x5mm_P0.7mm_EP2.65x2.65mm; Datasheet: http://ww1.microchip.com/downloads/en/DeviceDoc/Atmel-8272-8-bit-AVR-microcontroller-ATmega164A_PA-324A_PA-644A_PA-1284_P_datasheet.pdf; Description_: 20MHz, 32kB Flash, 2kB SRAM, 1kB EEPROM, JTAG, DRQFN-44
pins: A1 PB5, A2 PB7, A3 VCC, A4 XTAL2, A5 PD0, A6 PD2, A7 PD3, A8 PD5, A9 PD7, A10 GND, A11 PC1, A12 PC3, A13 PC4, A14 PC6, A15 AVCC, A16 AREF, A17 PA6, A18 PA4, A19 PA3, A20 PA1, A21 VCC, A22 PB0, A23 PB2, A24 PB4, B1 PB6, B2 ~{{RESET}}, B3 GND, B4 XTAL1, B5 PD1, B6 PD4, B7 PD6, B8 VCC, B9 PC0, B10 PC2, B11 PC5, B12 PC7, B13 GND, B14 PA7, B15 PA5, B16 PA2, B17 PA0, B18 GND, B19 PB1, B20 PB3, EP GND